# Altium schematic symbol library CPU_STM.SchLib: 336 symbols (part 5 of 6)
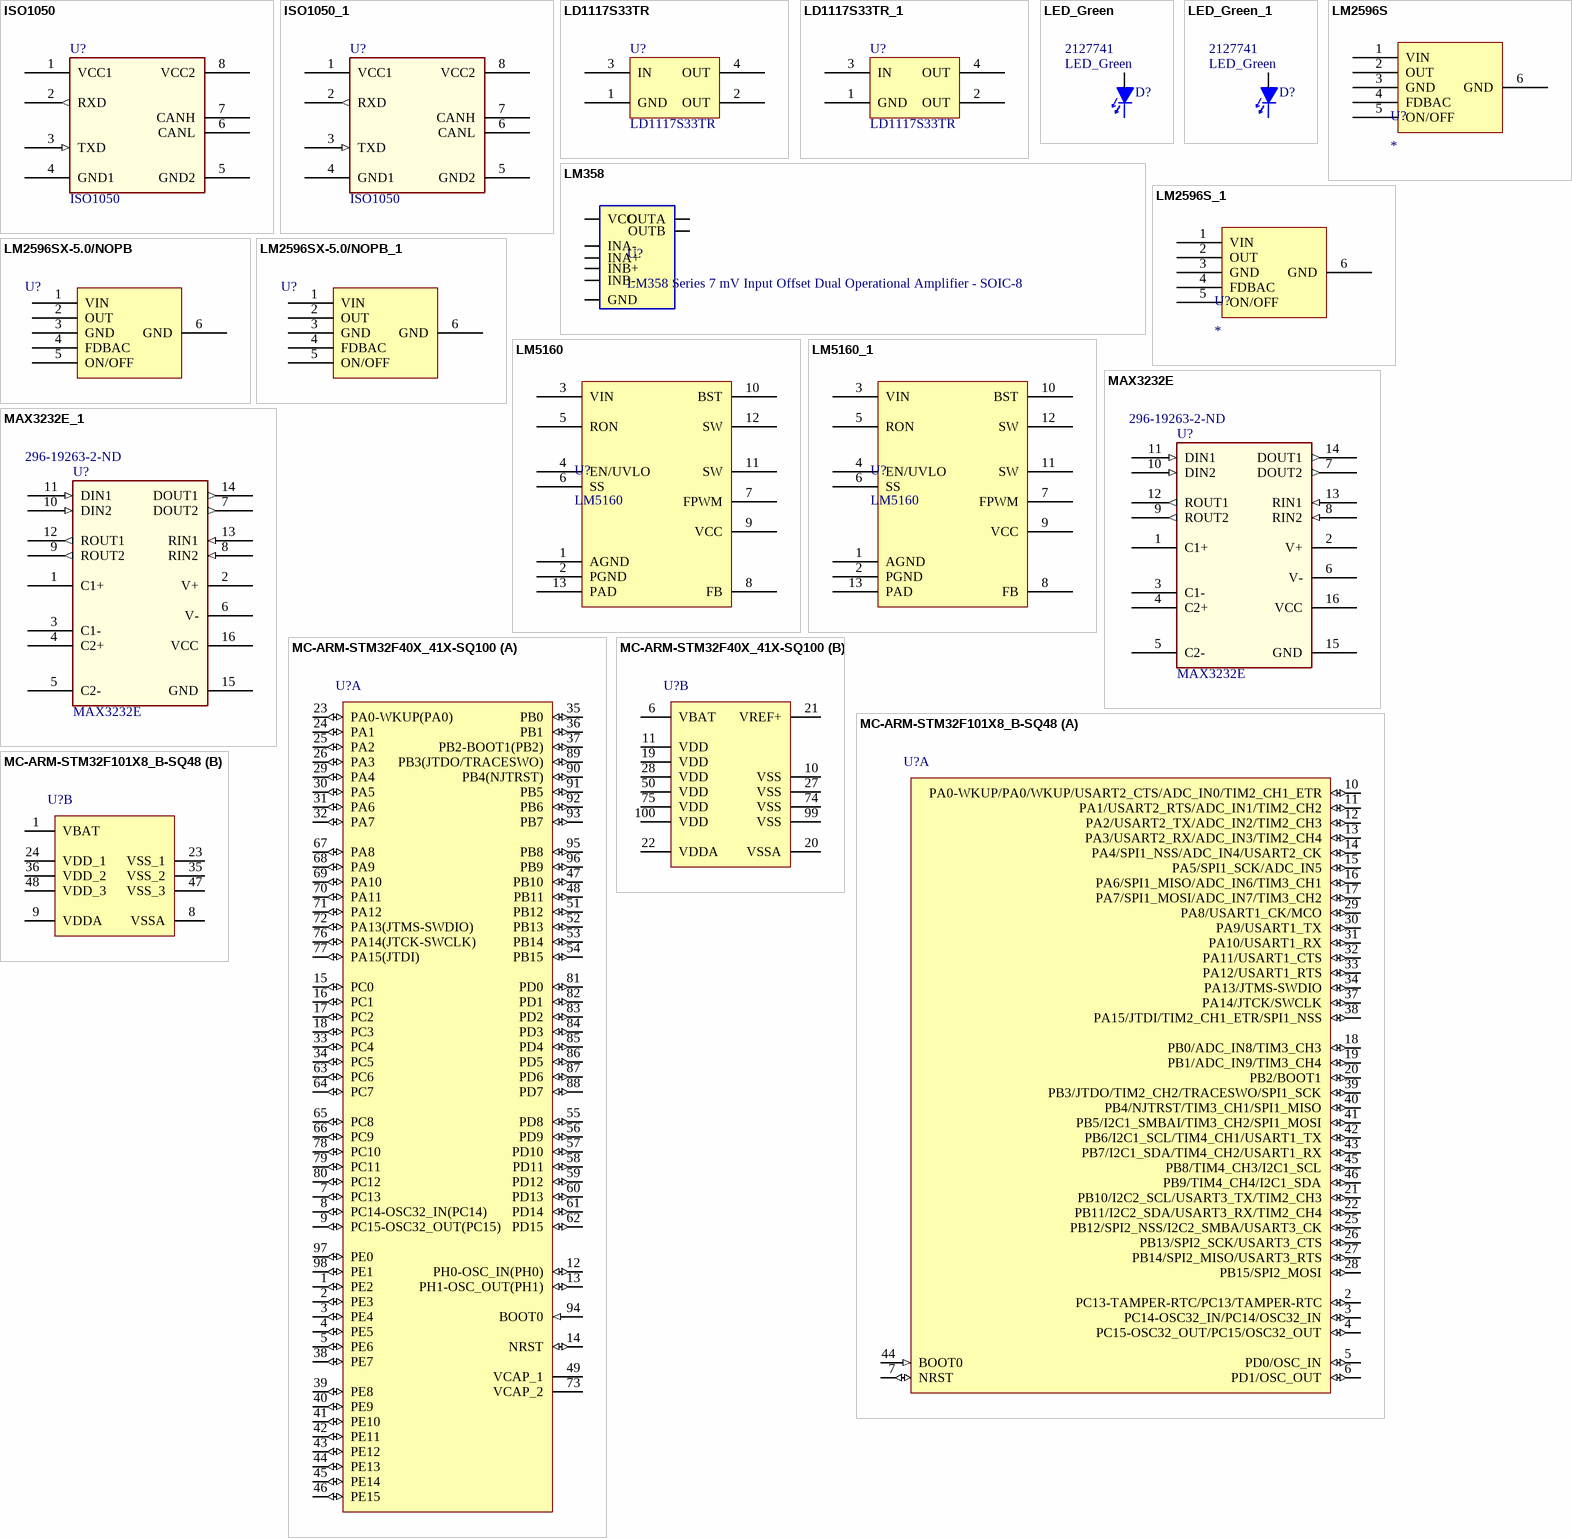
[diagram p23: symbols ISO1050 to MC-ARM-STM32F101X8_B-SQ48]

## LM5160
designator U?
Manufacturer: Texas Instruments; Manufacturer Part Number: LM5160DNTT; Input Voltage: 4.5 V to 65 V; Input Voltage MAX: 65 V; Number of Outputs: 1 Output; Output Current: 1.5 A; Output Voltage: 2 V to 60 V; Supply Current: 2.3 mA; Switching Frequency: 1 MHz; Topology: Buck; Development Kit: LM5160DNTBKEVM, LM5160DNTFBKEVM; Input Voltage MIN: 4.5 V; Product Status: New Product; Supplier 1: Mouser; RoHS: RoHS Compliant; Category: Voltage Regulators - Switching Regulators; Stock 1: 630; Pricing 1: 1=7.74, 10=6.91, 25=6.22, 50=5.94, 100=5.66, 250=5.11, 500=4.59, 750=4.14, 1000=3.45 (AUD); Operating Temperature Range: - 40 C to + 125 C; Package / Case: WSON-12; Packaging: Reel; Series: LM5160; Type: Synchronous Step-Down DC/DC Converter; Width: 4 mm; Brand: Texas Instruments; Mounting Style: SMD/SMT; Shutdown: Shutdown; Maximum Operating Temperature: + 125 C; Minimum Operating Temperature: - 40 C; Supply Voltage - Min: 4.5 V; RoHS - Mouser: Y; Minimum Order Quantity: 1; Reeling: True; ComponentLink1URL: http://www.mouser.com/ds/2/405/snvsa03a-528100.pdf; ComponentLink1Description: http://www.mouser.com/ds/2/405/snvsa03a-528100.pdf; Supplier Part Number 1: 595-LM5160DNTT
footprint WSON (U_48_RSL)
pins: 1 AGND, 2 PGND, 3 VIN, 4 EN/UVLO, 5 RON, 6 SS, 7 FPWM, 8 FB, 9 VCC, 10 BST, 11 SW, 12 SW, 13 PAD

## LM5160_1
designator U?, comment LM5160
Manufacturer: Texas Instruments; Manufacturer Part Number: LM5160DNTT; Input Voltage: 4.5 V to 65 V; Input Voltage MAX: 65 V; Number of Outputs: 1 Output; Output Current: 1.5 A; Output Voltage: 2 V to 60 V; Supply Current: 2.3 mA; Switching Frequency: 1 MHz; Topology: Buck; Development Kit: LM5160DNTBKEVM, LM5160DNTFBKEVM; Input Voltage MIN: 4.5 V; Product Status: New Product; Supplier 1: Mouser; RoHS: RoHS Compliant; Category: Voltage Regulators - Switching Regulators; Stock 1: 630; Pricing 1: 1=7.74, 10=6.91, 25=6.22, 50=5.94, 100=5.66, 250=5.11, 500=4.59, 750=4.14, 1000=3.45 (AUD); Operating Temperature Range: - 40 C to + 125 C; Package / Case: WSON-12; Packaging: Reel; Series: LM5160; Type: Synchronous Step-Down DC/DC Converter; Width: 4 mm; Brand: Texas Instruments; Mounting Style: SMD/SMT; Shutdown: Shutdown; Maximum Operating Temperature: + 125 C; Minimum Operating Temperature: - 40 C; Supply Voltage - Min: 4.5 V; RoHS - Mouser: Y; Minimum Order Quantity: 1; Reeling: True; ComponentLink1URL: http://www.mouser.com/ds/2/405/snvsa03a-528100.pdf; ComponentLink1Description: http://www.mouser.com/ds/2/405/snvsa03a-528100.pdf; Supplier Part Number 1: 595-LM5160DNTT
footprint WSON (U_48_RSL)
pins: 1 AGND, 2 PGND, 3 VIN, 4 EN/UVLO, 5 RON, 6 SS, 7 FPWM, 8 FB, 9 VCC, 10 BST, 11 SW, 12 SW, 13 PAD

## MAX3232E
designator U?  Supplier Part Number 1: 296-19263-2-ND
Dual Channel RS-232 Line Driver/Receiver; TIIntPartnumber: 1A0213; MfrNum: MAX3232ECD; Mfr: TI; Cost10K: 0.81; Cost100: 1.47; Vendor: Digikey; DescriptiveText: Dual Channel RS-232 Line Driver/Receiver; PartName: MAX3232E; Descriptive_Text: Dual Channel RS-232 Line Driver/Receiver; Supplier 1: Digi-Key
footprint TI-DW16_M (SOIC, 16-Leads, Body 10.3x7.5mm, Pitch 1.27mm, IPC Low Density)
pins: 1 C1+, 2 V+, 3 C1-, 4 C2+, 5 C2-, 6 V-, 7 DOUT2 (out), 8 RIN2 (in), 9 ROUT2 (out), 10 DIN2 (in), 11 DIN1 (in), 12 ROUT1 (out), 13 RIN1 (in), 14 DOUT1 (out), 15 GND (power), 16 VCC (power)

## MAX3232E_1
designator U?, comment MAX3232E  Supplier Part Number 1: 296-19263-2-ND
Dual Channel RS-232 Line Driver/Receiver; TIIntPartnumber: 1A0213; MfrNum: MAX3232ECD; Mfr: TI; Cost10K: 0.81; Cost100: 1.47; Vendor: Digikey; DescriptiveText: Dual Channel RS-232 Line Driver/Receiver; PartName: MAX3232E; Descriptive_Text: Dual Channel RS-232 Line Driver/Receiver; Supplier 1: Digi-Key
footprint TI-DW16_M (SOIC, 16-Leads, Body 10.3x7.5mm, Pitch 1.27mm, IPC Low Density)
pins: 1 C1+, 2 V+, 3 C1-, 4 C2+, 5 C2-, 6 V-, 7 DOUT2 (out), 8 RIN2 (in), 9 ROUT2 (out), 10 DIN2 (in), 11 DIN1 (in), 12 ROUT1 (out), 13 RIN1 (in), 14 DOUT1 (out), 15 GND (power), 16 VCC (power)

## MC-ARM-STM32F40X_41X-SQ100
designator U?
footprint STM-LQFP100_L (Thin QFP, 100-Leads, Body 14x14mm, Pitch 0.5mm, IPC High Density)
part A pins: 1 PE2 (io) "PE2/TRACECLK/FSMC_A23/ETH_MII_TXD3/EVENTOUT", 2 PE3 (io) "PE3/TRACED0/FSMC_A19/EVENTOUT", 3 PE4 (io) "PE4/TRACED1/FSMC_A20/DCMI_D4/EVENTOUT", 4 PE5 (io) "PE5/TRACED2/FSMC_A21/TIM9_CH1/DCMI_D6/EVENTOUT", 5 PE6 (io) "PE6/TRACED3/FSMC_A22/TIM9_CH2/DCMI_D7/EVENTOUT", 7 PC13 (io) "PC13/EVENTOUT/RTC_OUT,RTC_TAMP1,RTC_TS", 8 PC14-OSC32_IN(PC14) (io) "PC14-OSC32_IN(PC14)/EVENTOUT/OSC32_IN", 9 PC15-OSC32_OUT(PC15) (io) "PC15-OSC32_OUT(PC15)/EVENTOUT/OSC32_OUT", 12 PH0-OSC_IN(PH0) (io) "PH0-OSC_IN(PH0)/EVENTOUT/OSC_IN", 13 PH1-OSC_OUT(PH1) (io) "PH1-OSC_OUT(PH1)/EVENTOUT/OSC_OUT", 14 NRST (io), 15 PC0 (io) "PC0/OTG_HS_ULPI_STP/EVENTOUT/ADC123_IN10", 16 PC1 (io) "PC1/ETH_MDC/EVENTOUT/ADC123_IN11", 17 PC2 (io) "PC2/SPI2_MISO/OTG_HS_ULPI_DIR/ETH_MII_TXD2/I2S2ext_SD/EVENTOUT/ADC123_IN12", 18 PC3 (io) "PC3/SPI2_MOSI/I2S2_SD/OTG_HS_ULPI_NXT/ETH_MII_TX_CLK/EVENTOUT/ADC123_IN13", 23 PA0-WKUP(PA0) (io) "PA0-WKUP(PA0)/USART2_CTS/UART4_TX/ETH_MII_CRS/TIM2_CH1_ETR/TIM5_CH1/TIM8_ETR/EVENTOUT/ADC123_IN0/WKUP", 24 PA1 (io) "PA1/USART2_RTS/UART4_RX/ETH_RMII_REF_CLK/ETH_MII_RX_CLK/TIM5_CH2/TIM2_CH2/EVENTOUT/ADC123_IN1", 25 PA2 (io) "PA2/USART2_TX/TIM5_CH3/TIM9_CH1/TIM2_CH3/ETH_MDIO/EVENTOUT/ADC123_IN2", 26 PA3 (io) "PA3/USART2_RX/TIM5_CH4/TIM9_CH2/TIM2_CH4/OTG_HS_ULPI_D0/ETH_MII_COL/EVENTOUT/ADC123_IN3", 29 PA4 (io) "PA4/SPI1_NSS/SPI3_NSS/USART2_CK/DCMI_HSYNC/OTG_HS_SOF/I2S3_WS/EVENTOUT/ADC12_IN4/DAC_OUT1", 30 PA5 (io) "PA5/SPI1_SCK/OTG_HS_ULPI_CK/TIM2_CH1_ETR/TIM8_CH1N/EVENTOUT/ADC12_IN5/DAC_OUT2", 31 PA6 (io) "PA6/SPI1_MISO/TIM8_BKIN/TIM13_CH1/DCMI_PIXCLK/TIM3_CH1/TIM1_BKIN/EVENTOUT/ADC12_IN6", 32 PA7 (io) "PA7/SPI1_MOSI/TIM8_CH1N/TIM14_CH1/TIM3_CH2/ETH_MII_RX_DV/TIM1_CH1N/ETH_RMII_CRS_DV/EVENTOUT/ADC12_IN7", 33 PC4 (io) "PC4/ETH_RMII_RX_D0/ETH_MII_RX_D0/EVENTOUT/ADC12_IN14", 34 PC5 (io) "PC5/ETH_RMII_RX_D1/ETH_MII_RX_D1/EVENTOUT/ADC12_IN15", 35 PB0 (io) "PB0/TIM3_CH3/TIM8_CH2N/OTG_HS_ULPI_D1/ETH_MII_RXD2/TIM1_CH2N/EVENTOUT/ADC12_IN8", 36 PB1 (io) "PB1/TIM3_CH4/TIM8_CH3N/OTG_HS_ULPI_D2/ETH_MII_RXD3/TIM1_CH3N/EVENTOUT/ADC12_IN9", 37 PB2-BOOT1(PB2) (io) "PB2-BOOT1(PB2)/EVENTOUT", 38 PE7 (io) "PE7/FSMC_D4/TIM1_ETR/EVENTOUT", 39 PE8 (io) "PE8/FSMC_D5/TIM1_CH1N/EVENTOUT", 40 PE9 (io) "PE9/FSMC_D6/TIM1_CH1/EVENTOUT", 41 PE10 (io) "PE10/FSMC_D7/TIM1_CH2N/EVENTOUT", 42 PE11 (io) "PE11/FSMC_D8/TIM1_CH2/EVENTOUT", 43 PE12 (io) "PE12/FSMC_D9/TIM1_CH3N/EVENTOUT", 44 PE13 (io) "PE13/FSMC_D10/TIM1_CH3/EVENTOUT", 45 PE14 (io) "PE14/FSMC_D11/TIM1_CH4/EVENTOUT", 46 PE15 (io) "PE15/FSMC_D12/TIM1_BKIN/EVENTOUT", 47 PB10 (io) "PB10/SPI2_SCK/I2S2_CK/I2C2_SCL/USART3_TX/OTG_HS_ULPI_D3/ETH_MII_RX_ER/TIM2_CH3/EVENTOUT", 48 PB11 (io) "PB11/I2C2_SDA/USART3_RX/OTG_HS_ULPI_D4/ETH_RMII_TX_EN/ETH_MII_TX_EN/TIM2_CH4/EVENTOUT", 49 VCAP_1 (power), 51 PB12 (io) "PB12/SPI2_NSS/I2S2_WS/I2C2_SMBA/USART3_CK/TIM1_BKIN/CAN2_RX/OTG_HS_ULPI_D5/ETH_RMII_TXD0/ETH_MII_TXD0/OTG_HS_ID/EVENTOUT", 52 PB13 (io) "PB13/SPI2_SCK/I2S2_CK/USART3_CTS/TIM1_CH1N/CAN2_TX/OTG_HS_ULPI_D6/ETH_RMII_TXD1/ETH_MII_TXD1/EVENTOUT/OTG_HS_VBUS", 53 PB14 (io) "PB14/SPI2_MISO/TIM1_CH2N/TIM12_CH1/OTG_HS_DM/USART3_RTS/TIM8_CH2N/I2S2ext_SD/EVENTOUT", 54 PB15 (io) "PB15/SPI2_MOSI/I2S2_SD/TIM1_CH3N/TIM8_CH3N/TIM12_CH2/OTG_HS_DP/EVENTOUT/RTC_REFIN", 55 PD8 (io) "PD8/FSMC_D13/USART3_TX/EVENTOUT", 56 PD9 (io) "PD9/FSMC_D14/USART3_RX/EVENTOUT", 57 PD10 (io) "PD10/FSMC_D15/USART3_CK/EVENTOUT", 58 PD11 (io) "PD11/FSMC_CLE/FSMC_A16/USART3_CTS/EVENTOUT", 59 PD12 (io) "PD12/FSMC_ALE/FSMC_A17/TIM4_CH1/USART3_RTS/EVENTOUT", 60 PD13 (io) "PD13/FSMC_A18/TIM4_CH2/EVENTOUT", 61 PD14 (io) "PD14/FSMC_D0/TIM4_CH3/EVENTOUT", 62 PD15 (io) "PD15/FSMC_D1/TIM4_CH4/EVENTOUT", 63 PC6 (io) "PC6/I2S2_MCK/TIM8_CH1/SDIO_D6/USART6_TX/DCMI_D0/TIM3_CH1/EVENTOUT", 64 PC7 (io) "PC7/I2S3_MCK/TIM8_CH2/SDIO_D7/USART6_RX/DCMI_D1/TIM3_CH2/EVENTOUT", 65 PC8 (io) "PC8/TIM8_CH3/SDIO_D0/TIM3_CH3/USART6_CK/DCMI_D2/EVENTOUT", 66 PC9 (io) "PC9/I2S_CKIN/MCO2/TIM8_CH4/SDIO_D1/I2C3_SDA/DCMI_D3/TIM3_CH4/EVENTOUT", 67 PA8 (io) "PA8/MCO1/USART1_CK/TIM1_CH1/I2C3_SCL/OTG_FS_SOF/EVENTOUT", 68 PA9 (io) "PA9/USART1_TX/TIM1_CH2/I2C3_SMBA/DCMI_D0/EVENTOUT/OTG_FS_VBUS", 69 PA10 (io) "PA10/USART1_RX/TIM1_CH3/OTG_FS_ID/DCMI_D1/EVENTOUT", 70 PA11 (io) "PA11/USART1_CTS/CAN1_RX/TIM1_CH4/OTG_FS_DM/EVENTOUT", 71 PA12 (io) "PA12/USART1_RTS/CAN1_TX/TIM1_ETR/OTG_FS_DP/EVENTOUT", 72 PA13(JTMS-SWDIO) (io) "PA13(JTMS-SWDIO)/JTMS-SWDIO/EVENTOUT", 73 VCAP_2 (power), 76 PA14(JTCK-SWCLK) (io) "PA14(JTCK-SWCLK)/JTCK-SWCLK/EVENTOUT", 77 PA15(JTDI) (io) "PA15(JTDI)/JTDI/SPI3_NSS/I2S3_WS/TIM2_CH1_ETR/SPI1_NSS/EVENTOUT", 78 PC10 (io) "PC10/SPI3_SCK/I2S3_CK/UART4_TX/SDIO_D2/DCMI_D8/USART3_TX/EVENTOUT", 79 PC11 (io) "PC11/UART4_RX/SPI3_MISO/SDIO_D3/DCMI_D4/USART3_RX/I2S3ext_SD/EVENTOUT", 80 PC12 (io) "PC12/UART5_TX/SDIO_CK/DCMI_D9/SPI3_MOSI/I2S3_SD/USART3_CK/EVENTOUT", 81 PD0 (io) "PD0/FSMC_D2/CAN1_RX/EVENTOUT", 82 PD1 (io) "PD1/FSMC_D3/CAN1_TX/EVENTOUT", 83 PD2 (io) "PD2/TIM3_ETR/UART5_RX/SDIO_CMD/DCMI_D11/EVENTOUT", 84 PD3 (io) "PD3/FSMC_CLK/USART2_CTS/EVENTOUT", 85 PD4 (io) "PD4/FSMC_NOE/USART2_RTS/EVENTOUT", 86 PD5 (io) "PD5/FSMC_NWE/USART2_TX/EVENTOUT", 87 PD6 (io) "PD6/FSMC_NWAIT/USART2_RX/EVENTOUT", 88 PD7 (io) "PD7/USART2_CK/FSMC_NE1/FSMC_NCE2/EVENTOUT", 89 PB3(JTDO/TRACESWO) (io) "PB3(JTDO/TRACESWO)/JTDO/TRACESWO/SPI3_SCK/I2S3_CK/TIM2_CH2/SPI1_SCK/EVENTOUT", 90 PB4(NJTRST) (io) "PB4(NJTRST)/NJTRST/SPI3_MISO/TIM3_CH1/SPI1_MISO/I2S3ext_SD/EVENTOUT", 91 PB5 (io) "PB5/I2C1_SMBA/CAN2_RX/OTG_HS_ULPI_D7/ETH_PPS_OUT/TIM3_CH2/SPI1_MOSI/SPI3_MOSI/DCMI_D10/I2S3_SD/EVENTOUT", 92 PB6 (io) "PB6/I2C1_SCL/TIM4_CH1/CAN2_TX/DCMI_D5/USART1_TX/EVENTOUT", 93 PB7 (io) "PB7/I2C1_SDA/FSMC_NL/DCMI_VSYNC/USART1_RX/TIM4_CH2/EVENTOUT", 94 BOOT0 (in) "BOOT0/VPP", 95 PB8 (io) "PB8/TIM4_CH3/SDIO_D4/TIM10_CH1/DCMI_D6/ETH_MII_TXD3/I2C1_SCL/CAN1_RX/EVENTOUT", 96 PB9 (io) "PB9/SPI2_NSS/I2S2_WS/TIM4_CH4/TIM11_CH1/SDIO_D5/DCMI_D7/I2C1_SDA/CAN1_TX/EVENTOUT", 97 PE0 (io) "PE0/TIM4_ETR/FSMC_NBL0/DCMI_D2/EVENTOUT", 98 PE1 (io) "PE1/FSMC_NBL1/DCMI_D3/EVENTOUT"
part B pins: 6 VBAT (power), 10 VSS (power), 11 VDD (power), 19 VDD (power), 20 VSSA (power), 21 VREF+ (power), 22 VDDA (power), 27 VSS (power), 28 VDD (power), 50 VDD (power), 74 VSS (power), 75 VDD (power), 99 VSS (power), 100 VDD (power)

## MC-ARM-STM32F101X8_B-SQ48
designator U?
Manufacturer: STMicroelectronics; Manufacturer Part Number: STM32F101C8T6TR; Program Memory Type: Flash; A/D Bit Size: 12 bit; A/D Channels Available: 10; Data RAM Size: 10 kB; Data RAM Type: SRAM; Interface Type: I2C, SPI, USART; Number of I/Os: 37 I/O; Program Memory Size: 64 kB; Core: ARM Cortex M3; Data Bus Width: 32 bit; Maximum Clock Frequency: 36 MHz; Number of Timers: 3 Timer; Operating Supply Voltage: 2 V to 3.6 V; Processor Series: ARM Cortex-M; Supplier 1: Mouser; RoHS: RoHS Compliant; Category: ARM Microcontrollers - MCU; Stock 1: 0; Pricing 1: 1795=2.43, 2400=2.35, 4800=2.30 (USD); Length: 7 mm; Package/Case: LQFP-48; Packaging: Reel; Series: STM32F1; Brand: STMicroelectronics; Mounting Style: SMD/SMT; Maximum Operating Temperature: + 85 C; Minimum Operating Temperature: - 40 C; Product Category: ARM Based Microcontrollers; Standard Pack Qty: 2400; Tradename: STM32; RoHS - Mouser: Y; Minimum Order Quantity: 1795; Reeling: True; ComponentLink1URL: http://www.mouser.com/ds/2/389/CD00161561-490263.pdf; ComponentLink1Description: http://www.mouser.com/ds/2/389/CD00161561-490263.pdf; Supplier Part Number 1: 511-STM32F101C8T6TR
footprint STM-LQFP48_M (QFP, 48-Leads, Body 7x7mm, Pitch 0.5mm, IPC Low Density)
part A pins: 2 PC13-TAMPER-RTC/PC13/TAMPER-RTC (io), 3 PC14-OSC32_IN/PC14/OSC32_IN (io), 4 PC15-OSC32_OUT/PC15/OSC32_OUT (io), 5 PD0/OSC_IN (io), 6 PD1/OSC_OUT (io), 7 NRST (io), 10 PA0-WKUP/PA0/WKUP/USART2_CTS/ADC_IN0/TIM2_CH1_ETR (io), 11 PA1/USART2_RTS/ADC_IN1/TIM2_CH2 (io), 12 PA2/USART2_TX/ADC_IN2/TIM2_CH3 (io), 13 PA3/USART2_RX/ADC_IN3/TIM2_CH4 (io), 14 PA4/SPI1_NSS/ADC_IN4/USART2_CK (io), 15 PA5/SPI1_SCK/ADC_IN5 (io), 16 PA6/SPI1_MISO/ADC_IN6/TIM3_CH1 (io), 17 PA7/SPI1_MOSI/ADC_IN7/TIM3_CH2 (io), 18 PB0/ADC_IN8/TIM3_CH3 (io), 19 PB1/ADC_IN9/TIM3_CH4 (io), 20 PB2/BOOT1 (io), 21 PB10/I2C2_SCL/USART3_TX/TIM2_CH3 (io), 22 PB11/I2C2_SDA/USART3_RX/TIM2_CH4 (io), 25 PB12/SPI2_NSS/I2C2_SMBA/USART3_CK (io), 26 PB13/SPI2_SCK/USART3_CTS (io), 27 PB14/SPI2_MISO/USART3_RTS (io), 28 PB15/SPI2_MOSI (io), 29 PA8/USART1_CK/MCO (io), 30 PA9/USART1_TX (io), 31 PA10/USART1_RX (io), 32 PA11/USART1_CTS (io), 33 PA12/USART1_RTS (io), 34 PA13/JTMS-SWDIO (io), 37 PA14/JTCK/SWCLK (io), 38 PA15/JTDI/TIM2_CH1_ETR/SPI1_NSS (io), 39 PB3/JTDO/TIM2_CH2/TRACESWO/SPI1_SCK (io), 40 PB4/NJTRST/TIM3_CH1/SPI1_MISO (io), 41 PB5/I2C1_SMBAI/TIM3_CH2/SPI1_MOSI (io), 42 PB6/I2C1_SCL/TIM4_CH1/USART1_TX (io), 43 PB7/I2C1_SDA/TIM4_CH2/USART1_RX (io), 44 BOOT0 (in), 45 PB8/TIM4_CH3/I2C1_SCL (io), 46 PB9/TIM4_CH4/I2C1_SDA (io)
part B pins: 1 VBAT (power), 8 VSSA (power), 9 VDDA (power), 23 VSS_1 (power), 24 VDD_1 (power), 35 VSS_2 (power), 36 VDD_2 (power), 47 VSS_3 (power), 48 VDD_3 (power)

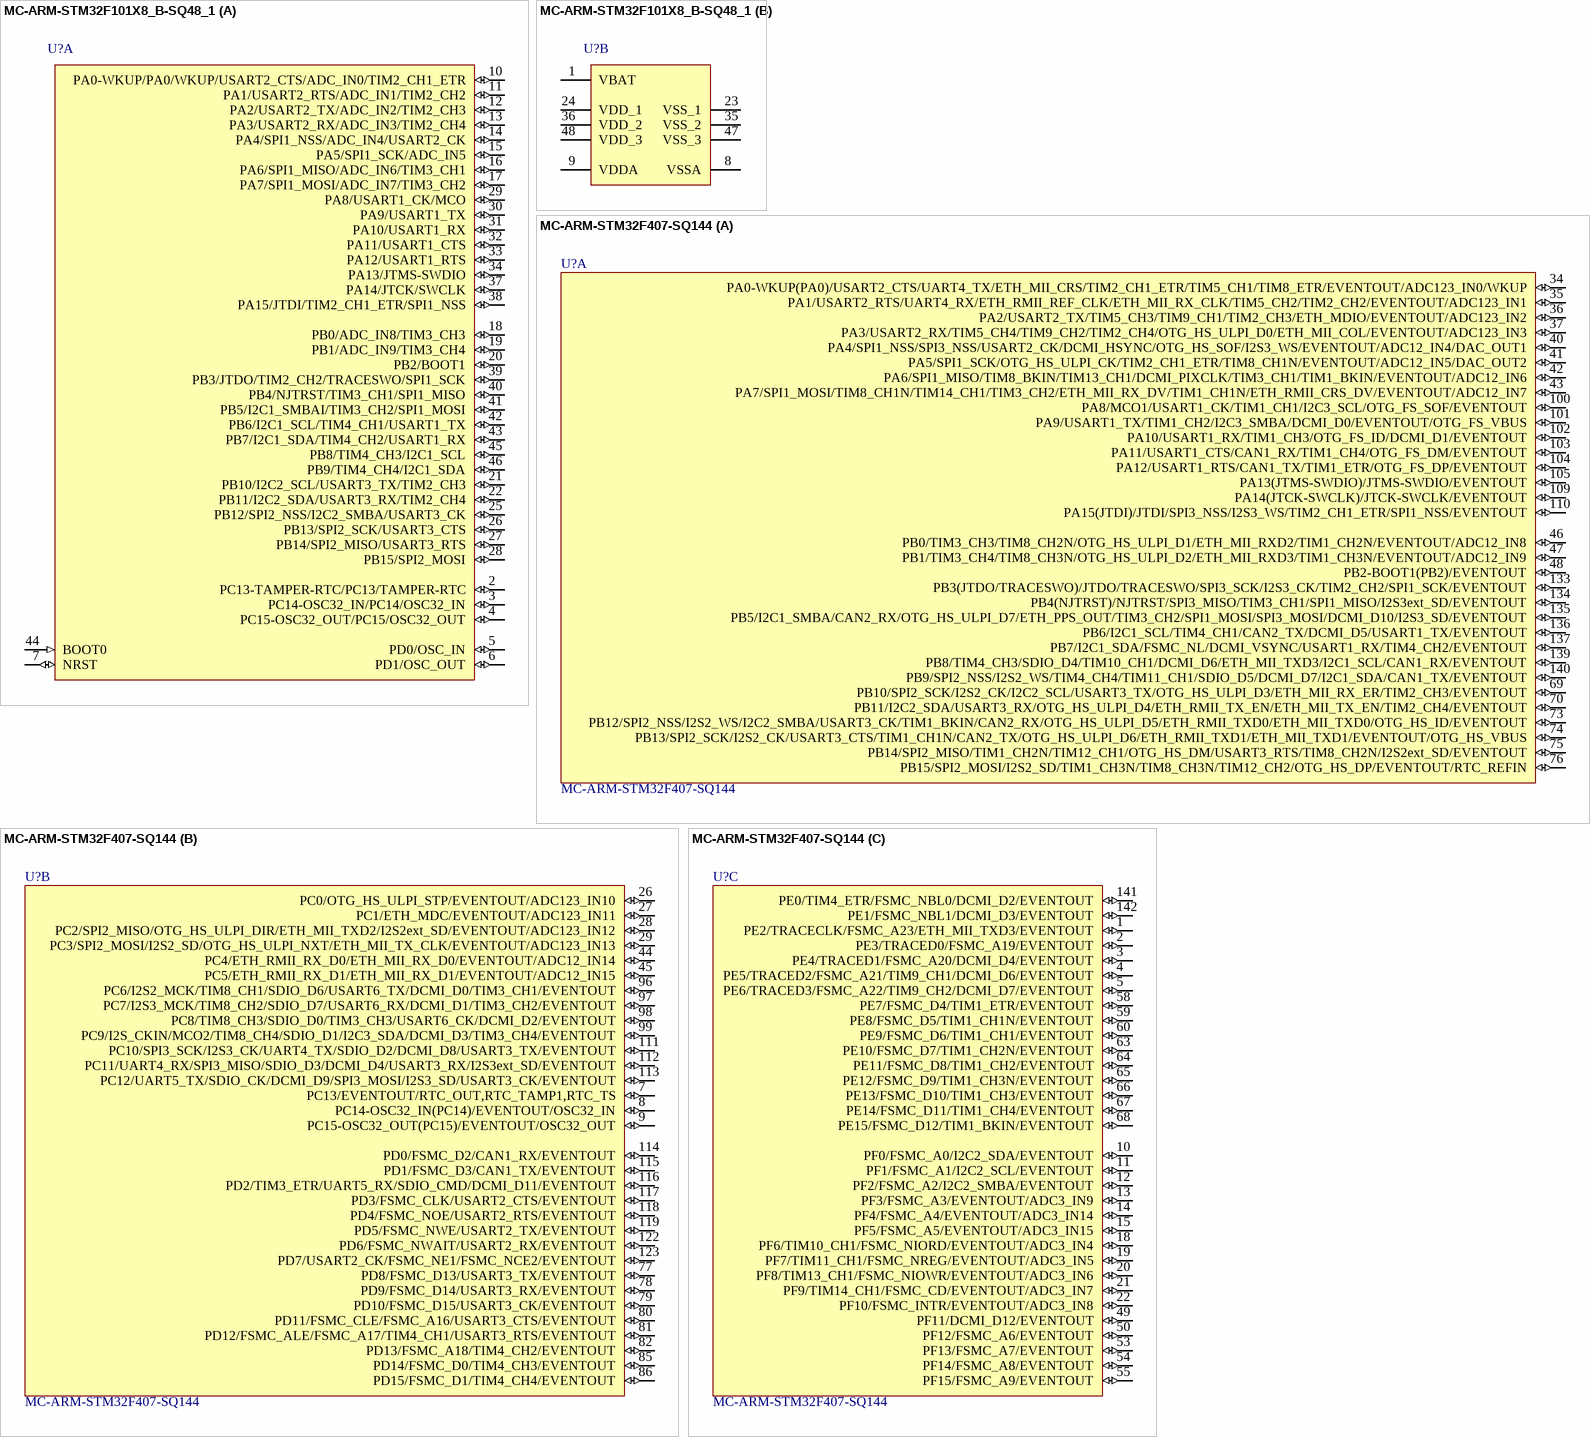
[diagram p13: symbols MC-ARM-STM32F101X8_B-SQ48_1 to MC-ARM-STM32F407-SQ144]

## MC-ARM-STM32F101X8_B-SQ48_1
designator U?
Manufacturer: STMicroelectronics; Manufacturer Part Number: STM32F101C8T6TR; Program Memory Type: Flash; A/D Bit Size: 12 bit; A/D Channels Available: 10; Data RAM Size: 10 kB; Data RAM Type: SRAM; Interface Type: I2C, SPI, USART; Number of I/Os: 37 I/O; Program Memory Size: 64 kB; Core: ARM Cortex M3; Data Bus Width: 32 bit; Maximum Clock Frequency: 36 MHz; Number of Timers: 3 Timer; Operating Supply Voltage: 2 V to 3.6 V; Processor Series: ARM Cortex-M; Supplier 1: Mouser; RoHS: RoHS Compliant; Category: ARM Microcontrollers - MCU; Stock 1: 0; Pricing 1: 1795=2.43, 2400=2.35, 4800=2.30 (USD); Length: 7 mm; Package/Case: LQFP-48; Packaging: Reel; Series: STM32F1; Brand: STMicroelectronics; Mounting Style: SMD/SMT; Maximum Operating Temperature: + 85 C; Minimum Operating Temperature: - 40 C; Product Category: ARM Based Microcontrollers; Standard Pack Qty: 2400; Tradename: STM32; RoHS - Mouser: Y; Minimum Order Quantity: 1795; Reeling: True; ComponentLink1URL: http://www.mouser.com/ds/2/389/CD00161561-490263.pdf; ComponentLink1Description: http://www.mouser.com/ds/2/389/CD00161561-490263.pdf; Supplier Part Number 1: 511-STM32F101C8T6TR
footprint STM-LQFP48_M (QFP, 48-Leads, Body 7x7mm, Pitch 0.5mm, IPC Low Density)
part A pins: 2 PC13-TAMPER-RTC/PC13/TAMPER-RTC (io), 3 PC14-OSC32_IN/PC14/OSC32_IN (io), 4 PC15-OSC32_OUT/PC15/OSC32_OUT (io), 5 PD0/OSC_IN (io), 6 PD1/OSC_OUT (io), 7 NRST (io), 10 PA0-WKUP/PA0/WKUP/USART2_CTS/ADC_IN0/TIM2_CH1_ETR (io), 11 PA1/USART2_RTS/ADC_IN1/TIM2_CH2 (io), 12 PA2/USART2_TX/ADC_IN2/TIM2_CH3 (io), 13 PA3/USART2_RX/ADC_IN3/TIM2_CH4 (io), 14 PA4/SPI1_NSS/ADC_IN4/USART2_CK (io), 15 PA5/SPI1_SCK/ADC_IN5 (io), 16 PA6/SPI1_MISO/ADC_IN6/TIM3_CH1 (io), 17 PA7/SPI1_MOSI/ADC_IN7/TIM3_CH2 (io), 18 PB0/ADC_IN8/TIM3_CH3 (io), 19 PB1/ADC_IN9/TIM3_CH4 (io), 20 PB2/BOOT1 (io), 21 PB10/I2C2_SCL/USART3_TX/TIM2_CH3 (io), 22 PB11/I2C2_SDA/USART3_RX/TIM2_CH4 (io), 25 PB12/SPI2_NSS/I2C2_SMBA/USART3_CK (io), 26 PB13/SPI2_SCK/USART3_CTS (io), 27 PB14/SPI2_MISO/USART3_RTS (io), 28 PB15/SPI2_MOSI (io), 29 PA8/USART1_CK/MCO (io), 30 PA9/USART1_TX (io), 31 PA10/USART1_RX (io), 32 PA11/USART1_CTS (io), 33 PA12/USART1_RTS (io), 34 PA13/JTMS-SWDIO (io), 37 PA14/JTCK/SWCLK (io), 38 PA15/JTDI/TIM2_CH1_ETR/SPI1_NSS (io), 39 PB3/JTDO/TIM2_CH2/TRACESWO/SPI1_SCK (io), 40 PB4/NJTRST/TIM3_CH1/SPI1_MISO (io), 41 PB5/I2C1_SMBAI/TIM3_CH2/SPI1_MOSI (io), 42 PB6/I2C1_SCL/TIM4_CH1/USART1_TX (io), 43 PB7/I2C1_SDA/TIM4_CH2/USART1_RX (io), 44 BOOT0 (in), 45 PB8/TIM4_CH3/I2C1_SCL (io), 46 PB9/TIM4_CH4/I2C1_SDA (io)
part B pins: 1 VBAT (power), 8 VSSA (power), 9 VDDA (power), 23 VSS_1 (power), 24 VDD_1 (power), 35 VSS_2 (power), 36 VDD_2 (power), 47 VSS_3 (power), 48 VDD_3 (power)

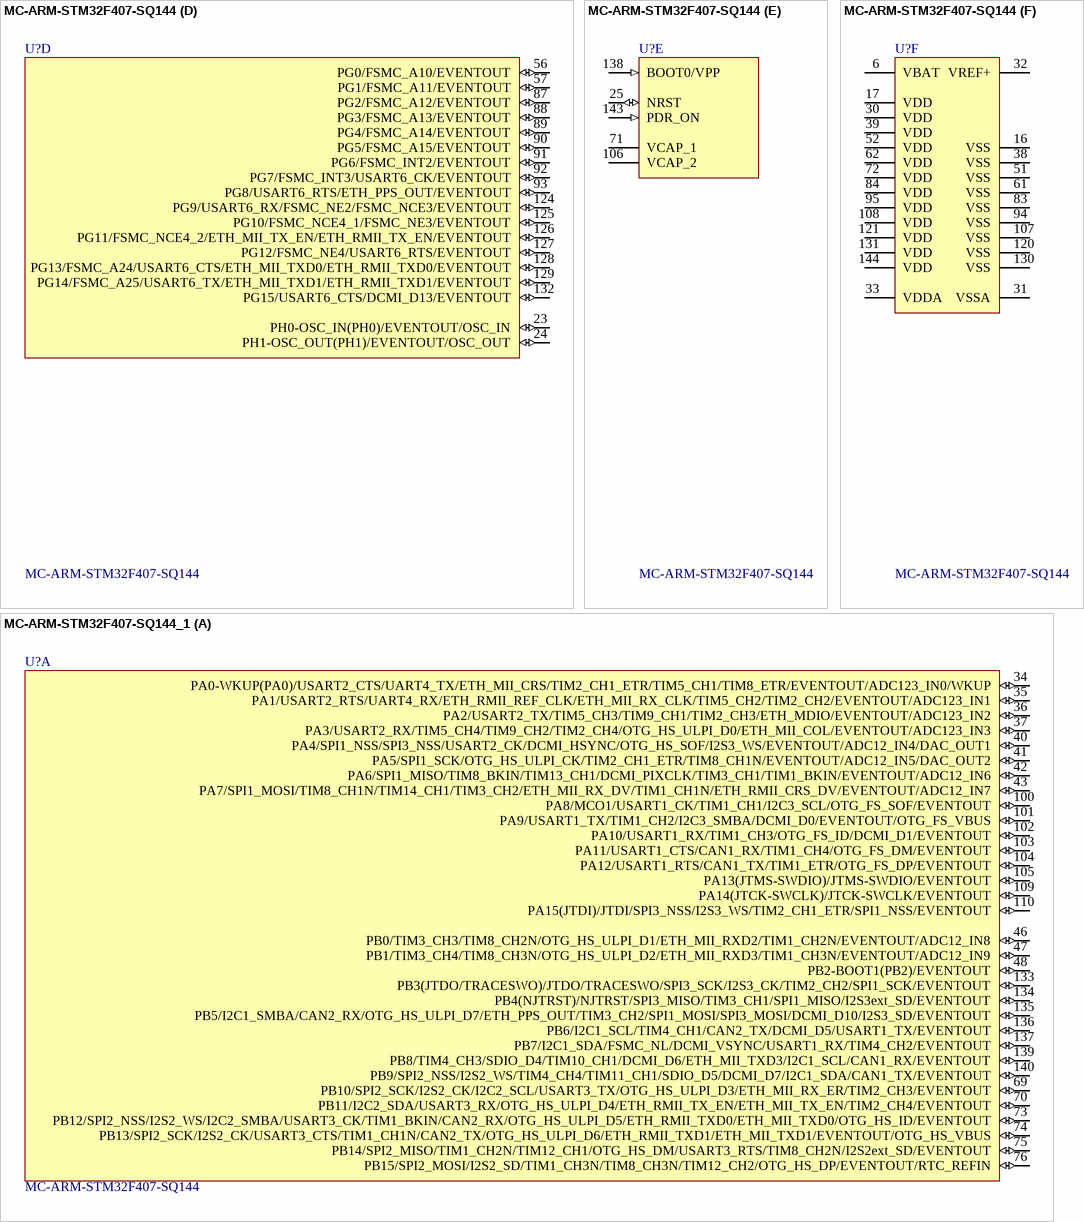
[diagram p14: symbols MC-ARM-STM32F407-SQ144 to MC-ARM-STM32F407-SQ144_1]

## MC-ARM-STM32F407-SQ144
designator U?
Supplier 1: Digi-Key; Supplier Part Number 1: 497-11766-ND
footprint STM-LQFP144_L
part A pins: 34 PA0-WKUP(PA0)/USART2_CTS/UART4_TX/ETH_MII_CRS/TIM2_CH1_ETR/TIM5_CH1/TIM8_ETR/EVENTOUT/ADC123_IN0/WKUP (io), 35 PA1/USART2_RTS/UART4_RX/ETH_RMII_REF_CLK/ETH_MII_RX_CLK/TIM5_CH2/TIM2_CH2/EVENTOUT/ADC123_IN1 (io), 36 PA2/USART2_TX/TIM5_CH3/TIM9_CH1/TIM2_CH3/ETH_MDIO/EVENTOUT/ADC123_IN2 (io), 37 PA3/USART2_RX/TIM5_CH4/TIM9_CH2/TIM2_CH4/OTG_HS_ULPI_D0/ETH_MII_COL/EVENTOUT/ADC123_IN3 (io), 40 PA4/SPI1_NSS/SPI3_NSS/USART2_CK/DCMI_HSYNC/OTG_HS_SOF/I2S3_WS/EVENTOUT/ADC12_IN4/DAC_OUT1 (io), 41 PA5/SPI1_SCK/OTG_HS_ULPI_CK/TIM2_CH1_ETR/TIM8_CH1N/EVENTOUT/ADC12_IN5/DAC_OUT2 (io), 42 PA6/SPI1_MISO/TIM8_BKIN/TIM13_CH1/DCMI_PIXCLK/TIM3_CH1/TIM1_BKIN/EVENTOUT/ADC12_IN6 (io), 43 PA7/SPI1_MOSI/TIM8_CH1N/TIM14_CH1/TIM3_CH2/ETH_MII_RX_DV/TIM1_CH1N/ETH_RMII_CRS_DV/EVENTOUT/ADC12_IN7 (io), 46 PB0/TIM3_CH3/TIM8_CH2N/OTG_HS_ULPI_D1/ETH_MII_RXD2/TIM1_CH2N/EVENTOUT/ADC12_IN8 (io), 47 PB1/TIM3_CH4/TIM8_CH3N/OTG_HS_ULPI_D2/ETH_MII_RXD3/TIM1_CH3N/EVENTOUT/ADC12_IN9 (io), 48 PB2-BOOT1(PB2)/EVENTOUT (io), 69 PB10/SPI2_SCK/I2S2_CK/I2C2_SCL/USART3_TX/OTG_HS_ULPI_D3/ETH_MII_RX_ER/TIM2_CH3/EVENTOUT (io), 70 PB11/I2C2_SDA/USART3_RX/OTG_HS_ULPI_D4/ETH_RMII_TX_EN/ETH_MII_TX_EN/TIM2_CH4/EVENTOUT (io), 73 PB12/SPI2_NSS/I2S2_WS/I2C2_SMBA/USART3_CK/TIM1_BKIN/CAN2_RX/OTG_HS_ULPI_D5/ETH_RMII_TXD0/ETH_MII_TXD0/OTG_HS_ID/EVENTOUT (io), 74 PB13/SPI2_SCK/I2S2_CK/USART3_CTS/TIM1_CH1N/CAN2_TX/OTG_HS_ULPI_D6/ETH_RMII_TXD1/ETH_MII_TXD1/EVENTOUT/OTG_HS_VBUS (io), 75 PB14/SPI2_MISO/TIM1_CH2N/TIM12_CH1/OTG_HS_DM/USART3_RTS/TIM8_CH2N/I2S2ext_SD/EVENTOUT (io), 76 PB15/SPI2_MOSI/I2S2_SD/TIM1_CH3N/TIM8_CH3N/TIM12_CH2/OTG_HS_DP/EVENTOUT/RTC_REFIN (io), 100 PA8/MCO1/USART1_CK/TIM1_CH1/I2C3_SCL/OTG_FS_SOF/EVENTOUT (io), 101 PA9/USART1_TX/TIM1_CH2/I2C3_SMBA/DCMI_D0/EVENTOUT/OTG_FS_VBUS (io), 102 PA10/USART1_RX/TIM1_CH3/OTG_FS_ID/DCMI_D1/EVENTOUT (io), 103 PA11/USART1_CTS/CAN1_RX/TIM1_CH4/OTG_FS_DM/EVENTOUT (io), 104 PA12/USART1_RTS/CAN1_TX/TIM1_ETR/OTG_FS_DP/EVENTOUT (io), 105 PA13(JTMS-SWDIO)/JTMS-SWDIO/EVENTOUT (io), 109 PA14(JTCK-SWCLK)/JTCK-SWCLK/EVENTOUT (io), 110 PA15(JTDI)/JTDI/SPI3_NSS/I2S3_WS/TIM2_CH1_ETR/SPI1_NSS/EVENTOUT (io), 133 PB3(JTDO/TRACESWO)/JTDO/TRACESWO/SPI3_SCK/I2S3_CK/TIM2_CH2/SPI1_SCK/EVENTOUT (io), 134 PB4(NJTRST)/NJTRST/SPI3_MISO/TIM3_CH1/SPI1_MISO/I2S3ext_SD/EVENTOUT (io), 135 PB5/I2C1_SMBA/CAN2_RX/OTG_HS_ULPI_D7/ETH_PPS_OUT/TIM3_CH2/SPI1_MOSI/SPI3_MOSI/DCMI_D10/I2S3_SD/EVENTOUT (io), 136 PB6/I2C1_SCL/TIM4_CH1/CAN2_TX/DCMI_D5/USART1_TX/EVENTOUT (io), 137 PB7/I2C1_SDA/FSMC_NL/DCMI_VSYNC/USART1_RX/TIM4_CH2/EVENTOUT (io), 139 PB8/TIM4_CH3/SDIO_D4/TIM10_CH1/DCMI_D6/ETH_MII_TXD3/I2C1_SCL/CAN1_RX/EVENTOUT (io), 140 PB9/SPI2_NSS/I2S2_WS/TIM4_CH4/TIM11_CH1/SDIO_D5/DCMI_D7/I2C1_SDA/CAN1_TX/EVENTOUT (io)
part B pins: 7 PC13/EVENTOUT/RTC_OUT,RTC_TAMP1,RTC_TS (io), 8 PC14-OSC32_IN(PC14)/EVENTOUT/OSC32_IN (io), 9 PC15-OSC32_OUT(PC15)/EVENTOUT/OSC32_OUT (io), 26 PC0/OTG_HS_ULPI_STP/EVENTOUT/ADC123_IN10 (io), 27 PC1/ETH_MDC/EVENTOUT/ADC123_IN11 (io), 28 PC2/SPI2_MISO/OTG_HS_ULPI_DIR/ETH_MII_TXD2/I2S2ext_SD/EVENTOUT/ADC123_IN12 (io), 29 PC3/SPI2_MOSI/I2S2_SD/OTG_HS_ULPI_NXT/ETH_MII_TX_CLK/EVENTOUT/ADC123_IN13 (io), 44 PC4/ETH_RMII_RX_D0/ETH_MII_RX_D0/EVENTOUT/ADC12_IN14 (io), 45 PC5/ETH_RMII_RX_D1/ETH_MII_RX_D1/EVENTOUT/ADC12_IN15 (io), 77 PD8/FSMC_D13/USART3_TX/EVENTOUT (io), 78 PD9/FSMC_D14/USART3_RX/EVENTOUT (io), 79 PD10/FSMC_D15/USART3_CK/EVENTOUT (io), 80 PD11/FSMC_CLE/FSMC_A16/USART3_CTS/EVENTOUT (io), 81 PD12/FSMC_ALE/FSMC_A17/TIM4_CH1/USART3_RTS/EVENTOUT (io), 82 PD13/FSMC_A18/TIM4_CH2/EVENTOUT (io), 85 PD14/FSMC_D0/TIM4_CH3/EVENTOUT (io), 86 PD15/FSMC_D1/TIM4_CH4/EVENTOUT (io), 96 PC6/I2S2_MCK/TIM8_CH1/SDIO_D6/USART6_TX/DCMI_D0/TIM3_CH1/EVENTOUT (io), 97 PC7/I2S3_MCK/TIM8_CH2/SDIO_D7/USART6_RX/DCMI_D1/TIM3_CH2/EVENTOUT (io), 98 PC8/TIM8_CH3/SDIO_D0/TIM3_CH3/USART6_CK/DCMI_D2/EVENTOUT (io), 99 PC9/I2S_CKIN/MCO2/TIM8_CH4/SDIO_D1/I2C3_SDA/DCMI_D3/TIM3_CH4/EVENTOUT (io), 111 PC10/SPI3_SCK/I2S3_CK/UART4_TX/SDIO_D2/DCMI_D8/USART3_TX/EVENTOUT (io), 112 PC11/UART4_RX/SPI3_MISO/SDIO_D3/DCMI_D4/USART3_RX/I2S3ext_SD/EVENTOUT (io), 113 PC12/UART5_TX/SDIO_CK/DCMI_D9/SPI3_MOSI/I2S3_SD/USART3_CK/EVENTOUT (io), 114 PD0/FSMC_D2/CAN1_RX/EVENTOUT (io), 115 PD1/FSMC_D3/CAN1_TX/EVENTOUT (io), 116 PD2/TIM3_ETR/UART5_RX/SDIO_CMD/DCMI_D11/EVENTOUT (io), 117 PD3/FSMC_CLK/USART2_CTS/EVENTOUT (io), 118 PD4/FSMC_NOE/USART2_RTS/EVENTOUT (io), 119 PD5/FSMC_NWE/USART2_TX/EVENTOUT (io), 122 PD6/FSMC_NWAIT/USART2_RX/EVENTOUT (io), 123 PD7/USART2_CK/FSMC_NE1/FSMC_NCE2/EVENTOUT (io)
part C pins: 1 PE2/TRACECLK/FSMC_A23/ETH_MII_TXD3/EVENTOUT (io), 2 PE3/TRACED0/FSMC_A19/EVENTOUT (io), 3 PE4/TRACED1/FSMC_A20/DCMI_D4/EVENTOUT (io), 4 PE5/TRACED2/FSMC_A21/TIM9_CH1/DCMI_D6/EVENTOUT (io), 5 PE6/TRACED3/FSMC_A22/TIM9_CH2/DCMI_D7/EVENTOUT (io), 10 PF0/FSMC_A0/I2C2_SDA/EVENTOUT (io), 11 PF1/FSMC_A1/I2C2_SCL/EVENTOUT (io), 12 PF2/FSMC_A2/I2C2_SMBA/EVENTOUT (io), 13 PF3/FSMC_A3/EVENTOUT/ADC3_IN9 (io), 14 PF4/FSMC_A4/EVENTOUT/ADC3_IN14 (io), 15 PF5/FSMC_A5/EVENTOUT/ADC3_IN15 (io), 18 PF6/TIM10_CH1/FSMC_NIORD/EVENTOUT/ADC3_IN4 (io), 19 PF7/TIM11_CH1/FSMC_NREG/EVENTOUT/ADC3_IN5 (io), 20 PF8/TIM13_CH1/FSMC_NIOWR/EVENTOUT/ADC3_IN6 (io), 21 PF9/TIM14_CH1/FSMC_CD/EVENTOUT/ADC3_IN7 (io), 22 PF10/FSMC_INTR/EVENTOUT/ADC3_IN8 (io), 49 PF11/DCMI_D12/EVENTOUT (io), 50 PF12/FSMC_A6/EVENTOUT (io), 53 PF13/FSMC_A7/EVENTOUT (io), 54 PF14/FSMC_A8/EVENTOUT (io), 55 PF15/FSMC_A9/EVENTOUT (io), 58 PE7/FSMC_D4/TIM1_ETR/EVENTOUT (io), 59 PE8/FSMC_D5/TIM1_CH1N/EVENTOUT (io), 60 PE9/FSMC_D6/TIM1_CH1/EVENTOUT (io), 63 PE10/FSMC_D7/TIM1_CH2N/EVENTOUT (io), 64 PE11/FSMC_D8/TIM1_CH2/EVENTOUT (io), 65 PE12/FSMC_D9/TIM1_CH3N/EVENTOUT (io), 66 PE13/FSMC_D10/TIM1_CH3/EVENTOUT (io), 67 PE14/FSMC_D11/TIM1_CH4/EVENTOUT (io), 68 PE15/FSMC_D12/TIM1_BKIN/EVENTOUT (io), 141 PE0/TIM4_ETR/FSMC_NBL0/DCMI_D2/EVENTOUT (io), 142 PE1/FSMC_NBL1/DCMI_D3/EVENTOUT (io)
part D pins: 23 PH0-OSC_IN(PH0)/EVENTOUT/OSC_IN (io), 24 PH1-OSC_OUT(PH1)/EVENTOUT/OSC_OUT (io), 56 PG0/FSMC_A10/EVENTOUT (io), 57 PG1/FSMC_A11/EVENTOUT (io), 87 PG2/FSMC_A12/EVENTOUT (io), 88 PG3/FSMC_A13/EVENTOUT (io), 89 PG4/FSMC_A14/EVENTOUT (io), 90 PG5/FSMC_A15/EVENTOUT (io), 91 PG6/FSMC_INT2/EVENTOUT (io), 92 PG7/FSMC_INT3/USART6_CK/EVENTOUT (io), 93 PG8/USART6_RTS/ETH_PPS_OUT/EVENTOUT (io), 124 PG9/USART6_RX/FSMC_NE2/FSMC_NCE3/EVENTOUT (io), 125 PG10/FSMC_NCE4_1/FSMC_NE3/EVENTOUT (io), 126 PG11/FSMC_NCE4_2/ETH_MII_TX_EN/ETH_RMII_TX_EN/EVENTOUT (io), 127 PG12/FSMC_NE4/USART6_RTS/EVENTOUT (io), 128 PG13/FSMC_A24/USART6_CTS/ETH_MII_TXD0/ETH_RMII_TXD0/EVENTOUT (io), 129 PG14/FSMC_A25/USART6_TX/ETH_MII_TXD1/ETH_RMII_TXD1/EVENTOUT (io), 132 PG15/USART6_CTS/DCMI_D13/EVENTOUT (io)
part E pins: 25 NRST (io), 71 VCAP_1 (power), 106 VCAP_2 (power), 138 BOOT0/VPP (in), 143 PDR_ON (in)
part F pins: 6 VBAT (power), 16 VSS (power), 17 VDD (power), 30 VDD (power), 31 VSSA (power), 32 VREF+ (power), 33 VDDA (power), 38 VSS (power), 39 VDD (power), 51 VSS (power), 52 VDD (power), 61 VSS (power), 62 VDD (power), 72 VDD (power), 83 VSS (power), 84 VDD (power), 94 VSS (power), 95 VDD (power), 107 VSS (power), 108 VDD (power), 120 VSS (power), 121 VDD (power), 130 VSS (power), 131 VDD (power), 144 VDD (power)

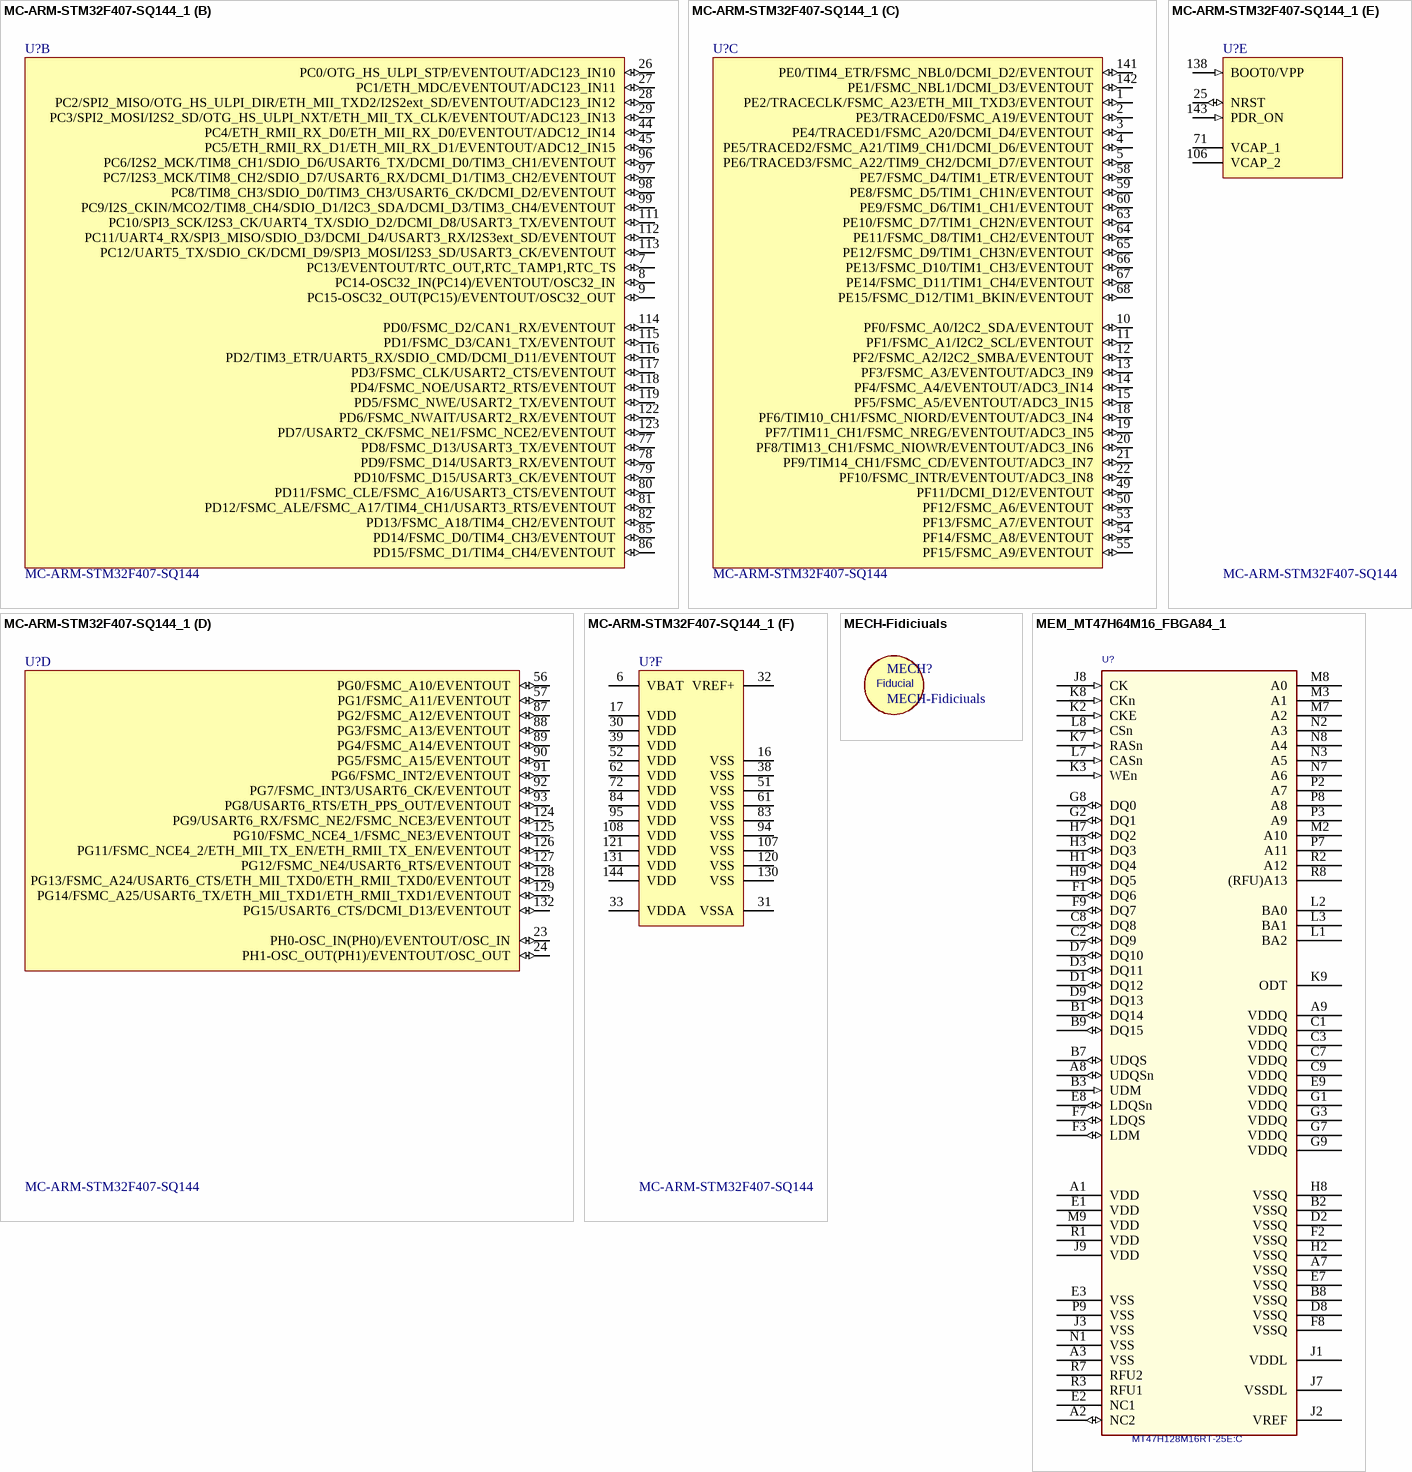
[diagram p15: symbols MC-ARM-STM32F407-SQ144_1 to MEM_MT47H64M16_FBGA84_1]

## MC-ARM-STM32F407-SQ144_1
designator U?, comment MC-ARM-STM32F407-SQ144
Supplier 1: Digi-Key; Supplier Part Number 1: 497-11766-ND
footprint STM-LQFP144_L
part A pins: 34 PA0-WKUP(PA0)/USART2_CTS/UART4_TX/ETH_MII_CRS/TIM2_CH1_ETR/TIM5_CH1/TIM8_ETR/EVENTOUT/ADC123_IN0/WKUP (io), 35 PA1/USART2_RTS/UART4_RX/ETH_RMII_REF_CLK/ETH_MII_RX_CLK/TIM5_CH2/TIM2_CH2/EVENTOUT/ADC123_IN1 (io), 36 PA2/USART2_TX/TIM5_CH3/TIM9_CH1/TIM2_CH3/ETH_MDIO/EVENTOUT/ADC123_IN2 (io), 37 PA3/USART2_RX/TIM5_CH4/TIM9_CH2/TIM2_CH4/OTG_HS_ULPI_D0/ETH_MII_COL/EVENTOUT/ADC123_IN3 (io), 40 PA4/SPI1_NSS/SPI3_NSS/USART2_CK/DCMI_HSYNC/OTG_HS_SOF/I2S3_WS/EVENTOUT/ADC12_IN4/DAC_OUT1 (io), 41 PA5/SPI1_SCK/OTG_HS_ULPI_CK/TIM2_CH1_ETR/TIM8_CH1N/EVENTOUT/ADC12_IN5/DAC_OUT2 (io), 42 PA6/SPI1_MISO/TIM8_BKIN/TIM13_CH1/DCMI_PIXCLK/TIM3_CH1/TIM1_BKIN/EVENTOUT/ADC12_IN6 (io), 43 PA7/SPI1_MOSI/TIM8_CH1N/TIM14_CH1/TIM3_CH2/ETH_MII_RX_DV/TIM1_CH1N/ETH_RMII_CRS_DV/EVENTOUT/ADC12_IN7 (io), 46 PB0/TIM3_CH3/TIM8_CH2N/OTG_HS_ULPI_D1/ETH_MII_RXD2/TIM1_CH2N/EVENTOUT/ADC12_IN8 (io), 47 PB1/TIM3_CH4/TIM8_CH3N/OTG_HS_ULPI_D2/ETH_MII_RXD3/TIM1_CH3N/EVENTOUT/ADC12_IN9 (io), 48 PB2-BOOT1(PB2)/EVENTOUT (io), 69 PB10/SPI2_SCK/I2S2_CK/I2C2_SCL/USART3_TX/OTG_HS_ULPI_D3/ETH_MII_RX_ER/TIM2_CH3/EVENTOUT (io), 70 PB11/I2C2_SDA/USART3_RX/OTG_HS_ULPI_D4/ETH_RMII_TX_EN/ETH_MII_TX_EN/TIM2_CH4/EVENTOUT (io), 73 PB12/SPI2_NSS/I2S2_WS/I2C2_SMBA/USART3_CK/TIM1_BKIN/CAN2_RX/OTG_HS_ULPI_D5/ETH_RMII_TXD0/ETH_MII_TXD0/OTG_HS_ID/EVENTOUT (io), 74 PB13/SPI2_SCK/I2S2_CK/USART3_CTS/TIM1_CH1N/CAN2_TX/OTG_HS_ULPI_D6/ETH_RMII_TXD1/ETH_MII_TXD1/EVENTOUT/OTG_HS_VBUS (io), 75 PB14/SPI2_MISO/TIM1_CH2N/TIM12_CH1/OTG_HS_DM/USART3_RTS/TIM8_CH2N/I2S2ext_SD/EVENTOUT (io), 76 PB15/SPI2_MOSI/I2S2_SD/TIM1_CH3N/TIM8_CH3N/TIM12_CH2/OTG_HS_DP/EVENTOUT/RTC_REFIN (io), 100 PA8/MCO1/USART1_CK/TIM1_CH1/I2C3_SCL/OTG_FS_SOF/EVENTOUT (io), 101 PA9/USART1_TX/TIM1_CH2/I2C3_SMBA/DCMI_D0/EVENTOUT/OTG_FS_VBUS (io), 102 PA10/USART1_RX/TIM1_CH3/OTG_FS_ID/DCMI_D1/EVENTOUT (io), 103 PA11/USART1_CTS/CAN1_RX/TIM1_CH4/OTG_FS_DM/EVENTOUT (io), 104 PA12/USART1_RTS/CAN1_TX/TIM1_ETR/OTG_FS_DP/EVENTOUT (io), 105 PA13(JTMS-SWDIO)/JTMS-SWDIO/EVENTOUT (io), 109 PA14(JTCK-SWCLK)/JTCK-SWCLK/EVENTOUT (io), 110 PA15(JTDI)/JTDI/SPI3_NSS/I2S3_WS/TIM2_CH1_ETR/SPI1_NSS/EVENTOUT (io), 133 PB3(JTDO/TRACESWO)/JTDO/TRACESWO/SPI3_SCK/I2S3_CK/TIM2_CH2/SPI1_SCK/EVENTOUT (io), 134 PB4(NJTRST)/NJTRST/SPI3_MISO/TIM3_CH1/SPI1_MISO/I2S3ext_SD/EVENTOUT (io), 135 PB5/I2C1_SMBA/CAN2_RX/OTG_HS_ULPI_D7/ETH_PPS_OUT/TIM3_CH2/SPI1_MOSI/SPI3_MOSI/DCMI_D10/I2S3_SD/EVENTOUT (io), 136 PB6/I2C1_SCL/TIM4_CH1/CAN2_TX/DCMI_D5/USART1_TX/EVENTOUT (io), 137 PB7/I2C1_SDA/FSMC_NL/DCMI_VSYNC/USART1_RX/TIM4_CH2/EVENTOUT (io), 139 PB8/TIM4_CH3/SDIO_D4/TIM10_CH1/DCMI_D6/ETH_MII_TXD3/I2C1_SCL/CAN1_RX/EVENTOUT (io), 140 PB9/SPI2_NSS/I2S2_WS/TIM4_CH4/TIM11_CH1/SDIO_D5/DCMI_D7/I2C1_SDA/CAN1_TX/EVENTOUT (io)
part B pins: 7 PC13/EVENTOUT/RTC_OUT,RTC_TAMP1,RTC_TS (io), 8 PC14-OSC32_IN(PC14)/EVENTOUT/OSC32_IN (io), 9 PC15-OSC32_OUT(PC15)/EVENTOUT/OSC32_OUT (io), 26 PC0/OTG_HS_ULPI_STP/EVENTOUT/ADC123_IN10 (io), 27 PC1/ETH_MDC/EVENTOUT/ADC123_IN11 (io), 28 PC2/SPI2_MISO/OTG_HS_ULPI_DIR/ETH_MII_TXD2/I2S2ext_SD/EVENTOUT/ADC123_IN12 (io), 29 PC3/SPI2_MOSI/I2S2_SD/OTG_HS_ULPI_NXT/ETH_MII_TX_CLK/EVENTOUT/ADC123_IN13 (io), 44 PC4/ETH_RMII_RX_D0/ETH_MII_RX_D0/EVENTOUT/ADC12_IN14 (io), 45 PC5/ETH_RMII_RX_D1/ETH_MII_RX_D1/EVENTOUT/ADC12_IN15 (io), 77 PD8/FSMC_D13/USART3_TX/EVENTOUT (io), 78 PD9/FSMC_D14/USART3_RX/EVENTOUT (io), 79 PD10/FSMC_D15/USART3_CK/EVENTOUT (io), 80 PD11/FSMC_CLE/FSMC_A16/USART3_CTS/EVENTOUT (io), 81 PD12/FSMC_ALE/FSMC_A17/TIM4_CH1/USART3_RTS/EVENTOUT (io), 82 PD13/FSMC_A18/TIM4_CH2/EVENTOUT (io), 85 PD14/FSMC_D0/TIM4_CH3/EVENTOUT (io), 86 PD15/FSMC_D1/TIM4_CH4/EVENTOUT (io), 96 PC6/I2S2_MCK/TIM8_CH1/SDIO_D6/USART6_TX/DCMI_D0/TIM3_CH1/EVENTOUT (io), 97 PC7/I2S3_MCK/TIM8_CH2/SDIO_D7/USART6_RX/DCMI_D1/TIM3_CH2/EVENTOUT (io), 98 PC8/TIM8_CH3/SDIO_D0/TIM3_CH3/USART6_CK/DCMI_D2/EVENTOUT (io), 99 PC9/I2S_CKIN/MCO2/TIM8_CH4/SDIO_D1/I2C3_SDA/DCMI_D3/TIM3_CH4/EVENTOUT (io), 111 PC10/SPI3_SCK/I2S3_CK/UART4_TX/SDIO_D2/DCMI_D8/USART3_TX/EVENTOUT (io), 112 PC11/UART4_RX/SPI3_MISO/SDIO_D3/DCMI_D4/USART3_RX/I2S3ext_SD/EVENTOUT (io), 113 PC12/UART5_TX/SDIO_CK/DCMI_D9/SPI3_MOSI/I2S3_SD/USART3_CK/EVENTOUT (io), 114 PD0/FSMC_D2/CAN1_RX/EVENTOUT (io), 115 PD1/FSMC_D3/CAN1_TX/EVENTOUT (io), 116 PD2/TIM3_ETR/UART5_RX/SDIO_CMD/DCMI_D11/EVENTOUT (io), 117 PD3/FSMC_CLK/USART2_CTS/EVENTOUT (io), 118 PD4/FSMC_NOE/USART2_RTS/EVENTOUT (io), 119 PD5/FSMC_NWE/USART2_TX/EVENTOUT (io), 122 PD6/FSMC_NWAIT/USART2_RX/EVENTOUT (io), 123 PD7/USART2_CK/FSMC_NE1/FSMC_NCE2/EVENTOUT (io)
part C pins: 1 PE2/TRACECLK/FSMC_A23/ETH_MII_TXD3/EVENTOUT (io), 2 PE3/TRACED0/FSMC_A19/EVENTOUT (io), 3 PE4/TRACED1/FSMC_A20/DCMI_D4/EVENTOUT (io), 4 PE5/TRACED2/FSMC_A21/TIM9_CH1/DCMI_D6/EVENTOUT (io), 5 PE6/TRACED3/FSMC_A22/TIM9_CH2/DCMI_D7/EVENTOUT (io), 10 PF0/FSMC_A0/I2C2_SDA/EVENTOUT (io), 11 PF1/FSMC_A1/I2C2_SCL/EVENTOUT (io), 12 PF2/FSMC_A2/I2C2_SMBA/EVENTOUT (io), 13 PF3/FSMC_A3/EVENTOUT/ADC3_IN9 (io), 14 PF4/FSMC_A4/EVENTOUT/ADC3_IN14 (io), 15 PF5/FSMC_A5/EVENTOUT/ADC3_IN15 (io), 18 PF6/TIM10_CH1/FSMC_NIORD/EVENTOUT/ADC3_IN4 (io), 19 PF7/TIM11_CH1/FSMC_NREG/EVENTOUT/ADC3_IN5 (io), 20 PF8/TIM13_CH1/FSMC_NIOWR/EVENTOUT/ADC3_IN6 (io), 21 PF9/TIM14_CH1/FSMC_CD/EVENTOUT/ADC3_IN7 (io), 22 PF10/FSMC_INTR/EVENTOUT/ADC3_IN8 (io), 49 PF11/DCMI_D12/EVENTOUT (io), 50 PF12/FSMC_A6/EVENTOUT (io), 53 PF13/FSMC_A7/EVENTOUT (io), 54 PF14/FSMC_A8/EVENTOUT (io), 55 PF15/FSMC_A9/EVENTOUT (io), 58 PE7/FSMC_D4/TIM1_ETR/EVENTOUT (io), 59 PE8/FSMC_D5/TIM1_CH1N/EVENTOUT (io), 60 PE9/FSMC_D6/TIM1_CH1/EVENTOUT (io), 63 PE10/FSMC_D7/TIM1_CH2N/EVENTOUT (io), 64 PE11/FSMC_D8/TIM1_CH2/EVENTOUT (io), 65 PE12/FSMC_D9/TIM1_CH3N/EVENTOUT (io), 66 PE13/FSMC_D10/TIM1_CH3/EVENTOUT (io), 67 PE14/FSMC_D11/TIM1_CH4/EVENTOUT (io), 68 PE15/FSMC_D12/TIM1_BKIN/EVENTOUT (io), 141 PE0/TIM4_ETR/FSMC_NBL0/DCMI_D2/EVENTOUT (io), 142 PE1/FSMC_NBL1/DCMI_D3/EVENTOUT (io)
part D pins: 23 PH0-OSC_IN(PH0)/EVENTOUT/OSC_IN (io), 24 PH1-OSC_OUT(PH1)/EVENTOUT/OSC_OUT (io), 56 PG0/FSMC_A10/EVENTOUT (io), 57 PG1/FSMC_A11/EVENTOUT (io), 87 PG2/FSMC_A12/EVENTOUT (io), 88 PG3/FSMC_A13/EVENTOUT (io), 89 PG4/FSMC_A14/EVENTOUT (io), 90 PG5/FSMC_A15/EVENTOUT (io), 91 PG6/FSMC_INT2/EVENTOUT (io), 92 PG7/FSMC_INT3/USART6_CK/EVENTOUT (io), 93 PG8/USART6_RTS/ETH_PPS_OUT/EVENTOUT (io), 124 PG9/USART6_RX/FSMC_NE2/FSMC_NCE3/EVENTOUT (io), 125 PG10/FSMC_NCE4_1/FSMC_NE3/EVENTOUT (io), 126 PG11/FSMC_NCE4_2/ETH_MII_TX_EN/ETH_RMII_TX_EN/EVENTOUT (io), 127 PG12/FSMC_NE4/USART6_RTS/EVENTOUT (io), 128 PG13/FSMC_A24/USART6_CTS/ETH_MII_TXD0/ETH_RMII_TXD0/EVENTOUT (io), 129 PG14/FSMC_A25/USART6_TX/ETH_MII_TXD1/ETH_RMII_TXD1/EVENTOUT (io), 132 PG15/USART6_CTS/DCMI_D13/EVENTOUT (io)
part E pins: 25 NRST (io), 71 VCAP_1 (power), 106 VCAP_2 (power), 138 BOOT0/VPP (in), 143 PDR_ON (in)
part F pins: 6 VBAT (power), 16 VSS (power), 17 VDD (power), 30 VDD (power), 31 VSSA (power), 32 VREF+ (power), 33 VDDA (power), 38 VSS (power), 39 VDD (power), 51 VSS (power), 52 VDD (power), 61 VSS (power), 62 VDD (power), 72 VDD (power), 83 VSS (power), 84 VDD (power), 94 VSS (power), 95 VDD (power), 107 VSS (power), 108 VDD (power), 120 VSS (power), 121 VDD (power), 130 VSS (power), 131 VDD (power), 144 VDD (power)

## MECH-Fidiciuals
designator MECH?
Fidiculas
footprint T-Fidicuals (Fidicuals)
text: Fiducial

## MEM_MT47H64M16_FBGA84_1
designator U?, comment MT47H128M16RT-25E:C
DDR2 SDRAM 2Gb (256Mx8); PART_NUMBER: MEM_MT4764M16_FBGA84; TIIntPartnumber: 1A0290; MfrNum: MT47H256M8EB-25E; Mfr: Micron; PartName: MT47H256M8; Cost10K: 8.91; Cost100: 12.00; Vendor: Arrow; Supplier 1: Digi-Key; Supplier Part Number 1: 557-1535-ND
footprint MICT-RT-84 (BGA, 84-Balls, Body 12.5x9mm, Pitch 0.8mm)
pins: A1 VDD (power), A2 NC2 (io), A3 VSS (power), A7 VSSQ (power), A8 UDQSn (io), A9 VDDQ (power), B1 DQ14 (io), B2 VSSQ (power), B3 UDM (in), B7 UDQS (io), B8 VSSQ (power), B9 DQ15 (io), C1 VDDQ (power), C2 DQ9 (io), C3 VDDQ (power), C7 VDDQ (power), C8 DQ8 (io), C9 VDDQ (power), D1 DQ12 (io), D2 VSSQ (power), D3 DQ11 (io), D7 DQ10 (io), D8 VSSQ (power), D9 DQ13 (io), E1 VDD (power), E2 NC1, E3 VSS (power), E7 VSSQ (power), E8 LDQSn (io), E9 VDDQ (power), F1 DQ6 (io), F2 VSSQ (power), F3 LDM (io), F7 LDQS (io), F8 VSSQ (power), F9 DQ7 (io), G1 VDDQ (power), G2 DQ1 (io), G3 VDDQ (power), G7 VDDQ (power), G8 DQ0 (io), G9 VDDQ (power), H1 DQ4 (io), H2 VSSQ (power), H3 DQ3 (io), H7 DQ2 (io), H8 VSSQ (power), H9 DQ5 (io), J1 VDDL (power), J2 VREF (power), J3 VSS (power), J7 VSSDL (power), J8 CK (in), J9 VDD (power), K2 CKE (in), K3 WEn (in), K7 RASn (in), K8 CKn (in), K9 ODT, L1 BA2, L2 BA0, L3 BA1, L7 CASn (in), L8 CSn (in), M2 A10, M3 A1, M7 A2, M8 A0, M9 VDD (power), N1 VSS (power), N2 A3, N3 A5, N7 A6, N8 A4, P2 A7, P3 A9, P7 A11, P8 A8, P9 VSS (power), R1 VDD (power), R2 A12, R3 RFU1, R7 RFU2, R8 (RFU)A13

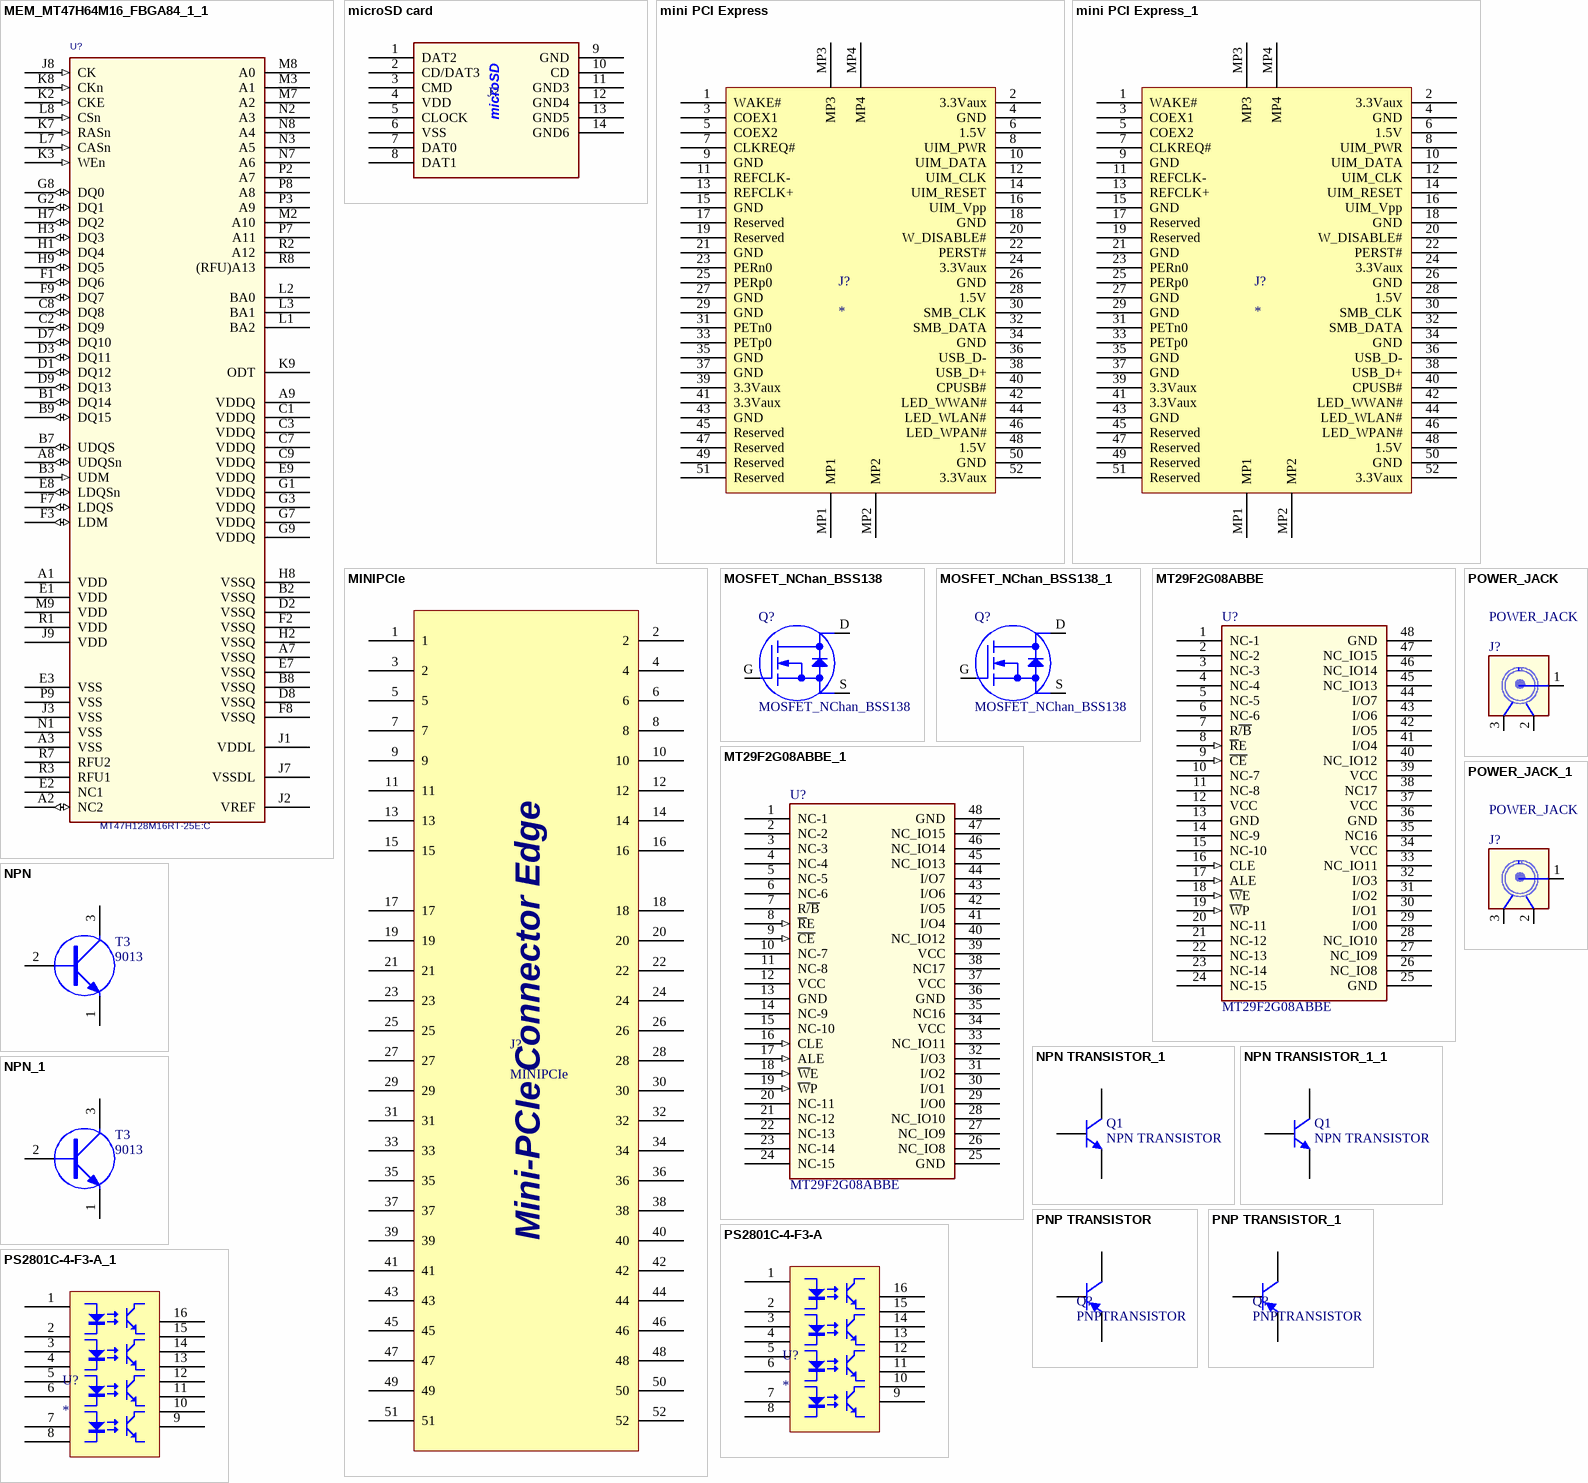
[diagram p16: symbols MEM_MT47H64M16_FBGA84_1_1 to PS2801C-4-F3-A_1]

## MEM_MT47H64M16_FBGA84_1_1
designator U?, comment MT47H128M16RT-25E:C
DDR2 SDRAM 2Gb (256Mx8); PART_NUMBER: MEM_MT4764M16_FBGA84; TIIntPartnumber: 1A0290; MfrNum: MT47H256M8EB-25E; Mfr: Micron; PartName: MT47H256M8; Cost10K: 8.91; Cost100: 12.00; Vendor: Arrow; Supplier 1: Digi-Key; Supplier Part Number 1: 557-1535-ND
footprint MICT-RT-84 (BGA, 84-Balls, Body 12.5x9mm, Pitch 0.8mm)
pins: A1 VDD (power), A2 NC2 (io), A3 VSS (power), A7 VSSQ (power), A8 UDQSn (io), A9 VDDQ (power), B1 DQ14 (io), B2 VSSQ (power), B3 UDM (in), B7 UDQS (io), B8 VSSQ (power), B9 DQ15 (io), C1 VDDQ (power), C2 DQ9 (io), C3 VDDQ (power), C7 VDDQ (power), C8 DQ8 (io), C9 VDDQ (power), D1 DQ12 (io), D2 VSSQ (power), D3 DQ11 (io), D7 DQ10 (io), D8 VSSQ (power), D9 DQ13 (io), E1 VDD (power), E2 NC1, E3 VSS (power), E7 VSSQ (power), E8 LDQSn (io), E9 VDDQ (power), F1 DQ6 (io), F2 VSSQ (power), F3 LDM (io), F7 LDQS (io), F8 VSSQ (power), F9 DQ7 (io), G1 VDDQ (power), G2 DQ1 (io), G3 VDDQ (power), G7 VDDQ (power), G8 DQ0 (io), G9 VDDQ (power), H1 DQ4 (io), H2 VSSQ (power), H3 DQ3 (io), H7 DQ2 (io), H8 VSSQ (power), H9 DQ5 (io), J1 VDDL (power), J2 VREF (power), J3 VSS (power), J7 VSSDL (power), J8 CK (in), J9 VDD (power), K2 CKE (in), K3 WEn (in), K7 RASn (in), K8 CKn (in), K9 ODT, L1 BA2, L2 BA0, L3 BA1, L7 CASn (in), L8 CSn (in), M2 A10, M3 A1, M7 A2, M8 A0, M9 VDD (power), N1 VSS (power), N2 A3, N3 A5, N7 A6, N8 A4, P2 A7, P3 A9, P7 A11, P8 A8, P9 VSS (power), R1 VDD (power), R2 A12, R3 RFU1, R7 RFU2, R8 (RFU)A13

## microSD card
designator J?, comment CONN MICRO SD CARD PUSH-PUSH R/A  (value not drawn)
MOLEX 5027740891; Manufacturer: Molex, LLC; Card Type: Secure Digital - microSD™; Number of Positions: 10 (8 + 2); Connector Type: Connector and Ejector; Insertion, Removal Method: Push In, Push Out; Supplier 1: Digi-Key; Manufacturer Part Number: 5027740891; RoHS: RoHS Compliant; Category: Connectors, Interconnects; Stock 1: 0; Pricing 1: 1000=1.91922, 2000=1.85304, 3000=1.78686, 5000=1.72068 (USD); Packaging: Tape & Reel (TR); Ejector Side: -; Mounting Type: Surface Mount, Right Angle; Features: Switch; Height Above Board: 0.071" (1.80mm); Mounting Feature: Reverse - Bottom; Contact Finish: Gold; Contact Finish Thickness: 20µin (0.51µm); ComponentLink1URL: http://www.molex.com/pdm_docs/sd/5027740891_sd.pdf; ComponentLink1Description: http://www.molex.com/pdm_docs/sd/5027740891_sd.pdf; Supplier Part Number 1: WM24066TR-ND
footprint microSD (Molex-5027740891)
pins: 1 DAT2, 2 CD/DAT3, 3 CMD, 4 VDD (power), 5 CLOCK, 6 VSS (power), 7 DAT0, 8 DAT1, 9 GND (power), 10 CD, 11 GND3 (power), 12 GND4 (power), 13 GND5 (power), 14 GND6 (power)
text: microSD

## mini PCI Express
designator J?
PCI EXSPRESS; Supplier 1: Digi-Key; Supplier Part Number 1: WM3471CT-ND
footprint GSM (Board-to-Board Connector, SMT, Right Angle, Pitch 0.8mm, 52-Position, Female)
pins: 1 WAKE#, 2 3.3Vaux, 3 COEX1, 4 GND, 5 COEX2, 6 1.5V, 7 CLKREQ#, 8 UIM_PWR, 9 GND, 10 UIM_DATA, 11 REFCLK-, 12 UIM_CLK, 13 REFCLK+, 14 UIM_RESET, 15 GND, 16 UIM_Vpp, 17 Reserved, 18 GND, 19 Reserved, 20 W_DISABLE#, 21 GND, 22 PERST#, 23 PERn0, 24 3.3Vaux, 25 PERp0, 26 GND, 27 GND, 28 1.5V, 29 GND, 30 SMB_CLK, 31 PETn0, 32 SMB_DATA, 33 PETp0, 34 GND, 35 GND, 36 USB_D-, 37 GND, 38 USB_D+, 39 3.3Vaux, 40 CPUSB#, 41 3.3Vaux, 42 LED_WWAN#, 43 GND, 44 LED_WLAN#, 45 Reserved, 46 LED_WPAN#, 47 Reserved, 48 1.5V, 49 Reserved, 50 GND, 51 Reserved, 52 3.3Vaux, MP1, MP2, MP3, MP4

## mini PCI Express_1
designator J?
PCI EXSPRESS; Supplier 1: Digi-Key; Supplier Part Number 1: WM3471CT-ND
footprint PCI MODUL
pins: 1 WAKE#, 2 3.3Vaux, 3 COEX1, 4 GND, 5 COEX2, 6 1.5V, 7 CLKREQ#, 8 UIM_PWR, 9 GND, 10 UIM_DATA, 11 REFCLK-, 12 UIM_CLK, 13 REFCLK+, 14 UIM_RESET, 15 GND, 16 UIM_Vpp, 17 Reserved, 18 GND, 19 Reserved, 20 W_DISABLE#, 21 GND, 22 PERST#, 23 PERn0, 24 3.3Vaux, 25 PERp0, 26 GND, 27 GND, 28 1.5V, 29 GND, 30 SMB_CLK, 31 PETn0, 32 SMB_DATA, 33 PETp0, 34 GND, 35 GND, 36 USB_D-, 37 GND, 38 USB_D+, 39 3.3Vaux, 40 CPUSB#, 41 3.3Vaux, 42 LED_WWAN#, 43 GND, 44 LED_WLAN#, 45 Reserved, 46 LED_WPAN#, 47 Reserved, 48 1.5V, 49 Reserved, 50 GND, 51 Reserved, 52 3.3Vaux, MP1, MP2, MP3, MP4

## MINIPCIe
designator J?
footprint PCI MODUL
pins: 1, 2, 3 2, 4, 5, 6, 7, 8, 9, 10, 11, 12, 13, 14, 15, 16, 17, 18, 19, 20, 21, 22, 23, 24, 25, 26, 27, 28, 29, 30, 31, 32, 33, 34, 35, 36, 37, 38, 39, 40, 41, 42, 43, 44, 45, 46, 47, 48, 49, 50, 51, 52
text: Mini-PCIe Connector Edge

## MOSFET_NChan_BSS138
designator Q?
MOSFET Nchan 50V 200mA; TIIntPartnumber: 1Q0019; MfrNum: BSS138-7-F; Mfr: Diodes Inc.; Cost10K: 0.128; Cost100: 0.18; Vendor: Digikey; TN: 289-0091-000; Descriptive_Text: MOSFET Nchan 50V 200mA; PartName: MOSFET_NChan_BSS138; DescriptiveText: MOSFET Nchan 50V 200mA; Supplier 1: Farnell; Supplier Part Number 1: 1843693RL
footprint SOT23-3
pins: D DRAIN, G GATE, S SOURCE

## MOSFET_NChan_BSS138_1
designator Q?, comment MOSFET_NChan_BSS138
MOSFET Nchan 50V 200mA; TIIntPartnumber: 1Q0019; MfrNum: BSS138-7-F; Mfr: Diodes Inc.; Cost10K: 0.128; Cost100: 0.18; Vendor: Digikey; TN: 289-0091-000; Descriptive_Text: MOSFET Nchan 50V 200mA; PartName: MOSFET_NChan_BSS138; DescriptiveText: MOSFET Nchan 50V 200mA; Supplier 1: Farnell; Supplier Part Number 1: 1843693RL
footprint SOT23-3
pins: D DRAIN, G GATE, S SOURCE

## MT29F2G08ABBE
designator U?
NAND 2Gb Flash Memory x08 width 3.3V; TIIntPartnumber: 1A0255; MfrNum: MT29F2G08ABAEAWP; Mfr: Micron; Cost10K: 3.12; Cost100: 7.1; Vendor: Arrow; DescriptiveText: NAND 2Gb Flash Memory x08 width 3.3V; PartName: MT29F2G08AB; Descriptive_Text: NAND 2Gb Flash Memory x08 width 3.3V; Supplier 1: Digi-Key; Supplier Part Number 1: 557-1487-1-ND
footprint skt-tsop48sm (SKT-TSOP48SM)
pins: 1 NC-1, 2 NC-2, 3 NC-3, 4 NC-4, 5 NC-5, 6 NC-6, 7 R~{/B} (oc), 8 ~{R}E (in), 9 ~{CE} (in), 10 NC-7, 11 NC-8, 12 VCC (power), 13 GND (power), 14 NC-9, 15 NC-10, 16 CLE (in), 17 ALE (in), 18 ~{W}E (in), 19 ~{W}P (in), 20 NC-11, 21 NC-12, 22 NC-13, 23 NC-14, 24 NC-15, 25 GND (power), 26 NC_IO8, 27 NC_IO9, 28 NC_IO10, 29 I/O0 (hiz), 30 I/O1 (hiz), 31 I/O2 (hiz), 32 I/O3 (hiz), 33 NC_IO11, 34 VCC (power), 35 NC16, 36 GND (power), 37 VCC (power), 38 NC17, 39 VCC (power), 40 NC_IO12, 41 I/O4 (hiz), 42 I/O5 (hiz), 43 I/O6 (hiz), 44 I/O7 (hiz), 45 NC_IO13, 46 NC_IO14, 47 NC_IO15, 48 GND (power)

## MT29F2G08ABBE_1
designator U?, comment MT29F2G08ABBE
NAND 2Gb Flash Memory x08 width 3.3V; TIIntPartnumber: 1A0255; MfrNum: MT29F2G08ABAEAWP; Mfr: Micron; Cost10K: 3.12; Cost100: 7.1; Vendor: Arrow; DescriptiveText: NAND 2Gb Flash Memory x08 width 3.3V; PartName: MT29F2G08AB; Descriptive_Text: NAND 2Gb Flash Memory x08 width 3.3V; Supplier 1: Digi-Key; Supplier Part Number 1: 557-1487-1-ND
footprint skt-tsop48sm (SKT-TSOP48SM)
pins: 1 NC-1, 2 NC-2, 3 NC-3, 4 NC-4, 5 NC-5, 6 NC-6, 7 R~{/B} (oc), 8 ~{R}E (in), 9 ~{CE} (in), 10 NC-7, 11 NC-8, 12 VCC (power), 13 GND (power), 14 NC-9, 15 NC-10, 16 CLE (in), 17 ALE (in), 18 ~{W}E (in), 19 ~{W}P (in), 20 NC-11, 21 NC-12, 22 NC-13, 23 NC-14, 24 NC-15, 25 GND (power), 26 NC_IO8, 27 NC_IO9, 28 NC_IO10, 29 I/O0 (hiz), 30 I/O1 (hiz), 31 I/O2 (hiz), 32 I/O3 (hiz), 33 NC_IO11, 34 VCC (power), 35 NC16, 36 GND (power), 37 VCC (power), 38 NC17, 39 VCC (power), 40 NC_IO12, 41 I/O4 (hiz), 42 I/O5 (hiz), 43 I/O6 (hiz), 44 I/O7 (hiz), 45 NC_IO13, 46 NC_IO14, 47 NC_IO15, 48 GND (power)

## NPN
designator T3, comment 9013
footprint SOT-23 - TR (SOT-23; 3 Leads; Body 3.0 x 2.6 mm, inc. leads (LxW max))
pins: 1 E, 2 B, 3 C

## NPN TRANSISTOR_1
designator Q1, comment NPN TRANSISTOR
NPN General Purpose Amplifier; Manufacturer: Fairchild Semiconductor; Manufacturer Part Number: BC817-40LT1G; Revision 1: 11-July-2000: SIM Model Added.; Revision 2: July-2002: Re-released for DXP Platform.; Package Information: Latest Revision: Sep-1998; Class I: Discrete; Class II: BJT - Low Power; Collector- Base Voltage VCBO: 50 V; Collector- Emitter Voltage VCEO Max: 45 V; Configuration: Single; Emitter- Base Voltage VEBO: 5 V; Brand: ON Semiconductor; Collector-Emitter Saturation Voltage: 0.7 V; DC Collector/Base Gain hFE Min: 250; Gain Bandwidth Product fT: 100 MHz; Maximum DC Collector Current: 0.5 A; Maximum Power Dissipation: 225 mW; Published: 8-Jun-2000; Datasheet: Latest Revision: 1997; Package Reference: SOT-23A; Publisher: Altium Limited; Supplier 1: Mouser; RoHS: RoHS Compliant; Category: Bipolar Transistors - BJT; Stock 1: 46774; Pricing 1: 1=0.133, 10=0.114, 100=0.040, 1000=0.028, 3000=0.021, 9000=0.017, 24000=0.015, 45000=0.014, 99000=0.011 (USD); Package/Case: SOT-23-3; Packaging: Reel; Series: BC817-40L; Mounting Style: SMD/SMT; Transistor Polarity: NPN; Maximum Operating Temperature: + 150 C; Minimum Operating Temperature: - 55 C; Product Category: Transistors Bipolar- General Purpose; Standard Pack Qty: 3000; RoHS - Mouser: Y; Minimum Order Quantity: 1; Reeling: True; ComponentLink1URL: http://www.mouser.com/ds/2/308/BC817-16LT1-D-104560.pdf; ComponentLink1Description: http://www.mouser.com/ds/2/308/BC817-16LT1-D-104560.pdf; Supplier Part Number 1: 863-BC817-40LT1G
footprint SO-G3/Y1
pins: 1 B, 2 E, 3 C

## NPN TRANSISTOR_1_1
designator Q1, comment NPN TRANSISTOR
NPN General Purpose Amplifier; Manufacturer: Fairchild Semiconductor; Manufacturer Part Number: BC817-40LT1G; Revision 1: 11-July-2000: SIM Model Added.; Revision 2: July-2002: Re-released for DXP Platform.; Package Information: Latest Revision: Sep-1998; Class I: Discrete; Class II: BJT - Low Power; Collector- Base Voltage VCBO: 50 V; Collector- Emitter Voltage VCEO Max: 45 V; Configuration: Single; Emitter- Base Voltage VEBO: 5 V; Brand: ON Semiconductor; Collector-Emitter Saturation Voltage: 0.7 V; DC Collector/Base Gain hFE Min: 250; Gain Bandwidth Product fT: 100 MHz; Maximum DC Collector Current: 0.5 A; Maximum Power Dissipation: 225 mW; Published: 8-Jun-2000; Datasheet: Latest Revision: 1997; Package Reference: SOT-23A; Publisher: Altium Limited; Supplier 1: Mouser; RoHS: RoHS Compliant; Category: Bipolar Transistors - BJT; Stock 1: 46774; Pricing 1: 1=0.133, 10=0.114, 100=0.040, 1000=0.028, 3000=0.021, 9000=0.017, 24000=0.015, 45000=0.014, 99000=0.011 (USD); Package/Case: SOT-23-3; Packaging: Reel; Series: BC817-40L; Mounting Style: SMD/SMT; Transistor Polarity: NPN; Maximum Operating Temperature: + 150 C; Minimum Operating Temperature: - 55 C; Product Category: Transistors Bipolar- General Purpose; Standard Pack Qty: 3000; RoHS - Mouser: Y; Minimum Order Quantity: 1; Reeling: True; ComponentLink1URL: http://www.mouser.com/ds/2/308/BC817-16LT1-D-104560.pdf; ComponentLink1Description: http://www.mouser.com/ds/2/308/BC817-16LT1-D-104560.pdf; Supplier Part Number 1: 863-BC817-40LT1G
footprint SO-G3/Y1
pins: 1 B, 2 E, 3 C

## NPN_1
designator T3, comment 9013
footprint SOT-23 - TR (SOT-23; 3 Leads; Body 3.0 x 2.6 mm, inc. leads (LxW max))
pins: 1 E, 2 B, 3 C

## PNP TRANSISTOR
designator Q?, comment PNPTRANSISTOR
PNP General Purpose Amplifier; Manufacturer: Fairchild Semiconductor; Manufacturer Part Number: BC817-40LT1G; Revision 1: 11-July-2000: SIM Model Added.; Revision 2: July-2002: Re-released for DXP Platform.; Package Information: Latest Revision: Sep-1998; Class I: Discrete; Class II: BJT - Low Power; Collector- Base Voltage VCBO: 50 V; Collector- Emitter Voltage VCEO Max: 45 V; Configuration: Single; Emitter- Base Voltage VEBO: 5 V; Brand: ON Semiconductor; Collector-Emitter Saturation Voltage: 0.7 V; Transistor Polarity: NPN; DC Collector/Base Gain hFE Min: 250; Gain Bandwidth Product fT: 100 MHz; Maximum DC Collector Current: 0.5 A; Maximum Power Dissipation: 225 mW; Published: 8-Jun-2000; Datasheet: Latest Revision: 1997; Package Reference: SOT-23A; Publisher: Altium Limited; RoHS: RoHS Compliant; Category: Bipolar Transistors - BJT; Package/Case: SOT-23-3; Packaging: Reel; Series: BC817-40L; Mounting Style: SMD/SMT; Maximum Operating Temperature: + 150 C; Minimum Operating Temperature: - 55 C; Product Category: Transistors Bipolar- General Purpose; Standard Pack Qty: 3000; RoHS - Mouser: Y; Minimum Order Quantity: 1; Reeling: True; ComponentLink1URL: http://www.mouser.com/ds/2/308/BC817-16LT1-D-104560.pdf; ComponentLink1Description: http://www.mouser.com/ds/2/308/BC817-16LT1-D-104560.pdf; Supplier 1: Mouser; Stock 1: 20798; Pricing 1: 1=0.226, 10=0.149, 100=0.062, 1000=0.042, 3000=0.033, 9000=0.028, 24000=0.027, 45000=0.025, 99000=0.022 (USD); ComponentLink2URL: http://www.mouser.com/ds/2/308/BCX17LT1-D-70726.pdf; ComponentLink2Description: http://www.mouser.com/ds/2/308/BCX17LT1-D-70726.pdf; Supplier Part Number 1: 863-BCX17LT1G
footprint SO-G3/Y1
pins: 1 B, 2 E, 3 C

## PNP TRANSISTOR_1
designator Q?, comment PNPTRANSISTOR
PNP General Purpose Amplifier; Manufacturer: Fairchild Semiconductor; Manufacturer Part Number: BC817-40LT1G; Revision 1: 11-July-2000: SIM Model Added.; Revision 2: July-2002: Re-released for DXP Platform.; Package Information: Latest Revision: Sep-1998; Class I: Discrete; Class II: BJT - Low Power; Collector- Base Voltage VCBO: 50 V; Collector- Emitter Voltage VCEO Max: 45 V; Configuration: Single; Emitter- Base Voltage VEBO: 5 V; Brand: ON Semiconductor; Collector-Emitter Saturation Voltage: 0.7 V; Transistor Polarity: NPN; DC Collector/Base Gain hFE Min: 250; Gain Bandwidth Product fT: 100 MHz; Maximum DC Collector Current: 0.5 A; Maximum Power Dissipation: 225 mW; Published: 8-Jun-2000; Datasheet: Latest Revision: 1997; Package Reference: SOT-23A; Publisher: Altium Limited; RoHS: RoHS Compliant; Category: Bipolar Transistors - BJT; Package/Case: SOT-23-3; Packaging: Reel; Series: BC817-40L; Mounting Style: SMD/SMT; Maximum Operating Temperature: + 150 C; Minimum Operating Temperature: - 55 C; Product Category: Transistors Bipolar- General Purpose; Standard Pack Qty: 3000; RoHS - Mouser: Y; Minimum Order Quantity: 1; Reeling: True; ComponentLink1URL: http://www.mouser.com/ds/2/308/BC817-16LT1-D-104560.pdf; ComponentLink1Description: http://www.mouser.com/ds/2/308/BC817-16LT1-D-104560.pdf; Supplier 1: Mouser; Stock 1: 20798; Pricing 1: 1=0.226, 10=0.149, 100=0.062, 1000=0.042, 3000=0.033, 9000=0.028, 24000=0.027, 45000=0.025, 99000=0.022 (USD); ComponentLink2URL: http://www.mouser.com/ds/2/308/BCX17LT1-D-70726.pdf; ComponentLink2Description: http://www.mouser.com/ds/2/308/BCX17LT1-D-70726.pdf; Supplier Part Number 1: 863-BCX17LT1G
footprint SO-G3/Y1
pins: 1 B, 2 E, 3 C

## POWER_JACK
designator J?
Jack Power Right Angle 2conductor; TIIntPartnumber: 2J0008; MfrNum: RAPC712; Mfr: Switchcraft; PartName: PwrJack_RAPC712; Cost10K: 0.90; Vendor: Digikey; DescriptiveText: Jack Power Right Angle 2conductor; Cost100: 0.90; Descriptive_Text: Jack Power Right Angle 2conductor; Supplier 1: Farnell; Supplier Part Number 1: 1617204
footprint RAPC712
pins: 1, 2, 3

## POWER_JACK_1
designator J?, comment POWER_JACK
Jack Power Right Angle 2conductor; TIIntPartnumber: 2J0008; MfrNum: RAPC712; Mfr: Switchcraft; PartName: PwrJack_RAPC712; Cost10K: 0.90; Vendor: Digikey; DescriptiveText: Jack Power Right Angle 2conductor; Cost100: 0.90; Descriptive_Text: Jack Power Right Angle 2conductor; Supplier 1: Farnell; Supplier Part Number 1: 1617204
footprint RAPC712
pins: 1, 2, 3

## PS2801C-4-F3-A
designator U?
NEC - PS2801C-4-F3-A - OPTOCOUPLER, 4X TR O/P, SSOP-16; Supplier 1: Farnell; Supplier Part Number 1: 1682862
footprint U_16_D LONG (U_16_D)
pins: 1, 2, 3, 4, 5, 6, 7, 8, 9, 10, 11, 12, 13, 14, 15, 16

## PS2801C-4-F3-A_1
designator U?
NEC - PS2801C-4-F3-A - OPTOCOUPLER, 4X TR O/P, SSOP-16; Supplier 1: Farnell; Supplier Part Number 1: 1682862
footprint U_16_D LONG (U_16_D)
pins: 1, 2, 3, 4, 5, 6, 7, 8, 9, 10, 11, 12, 13, 14, 15, 16

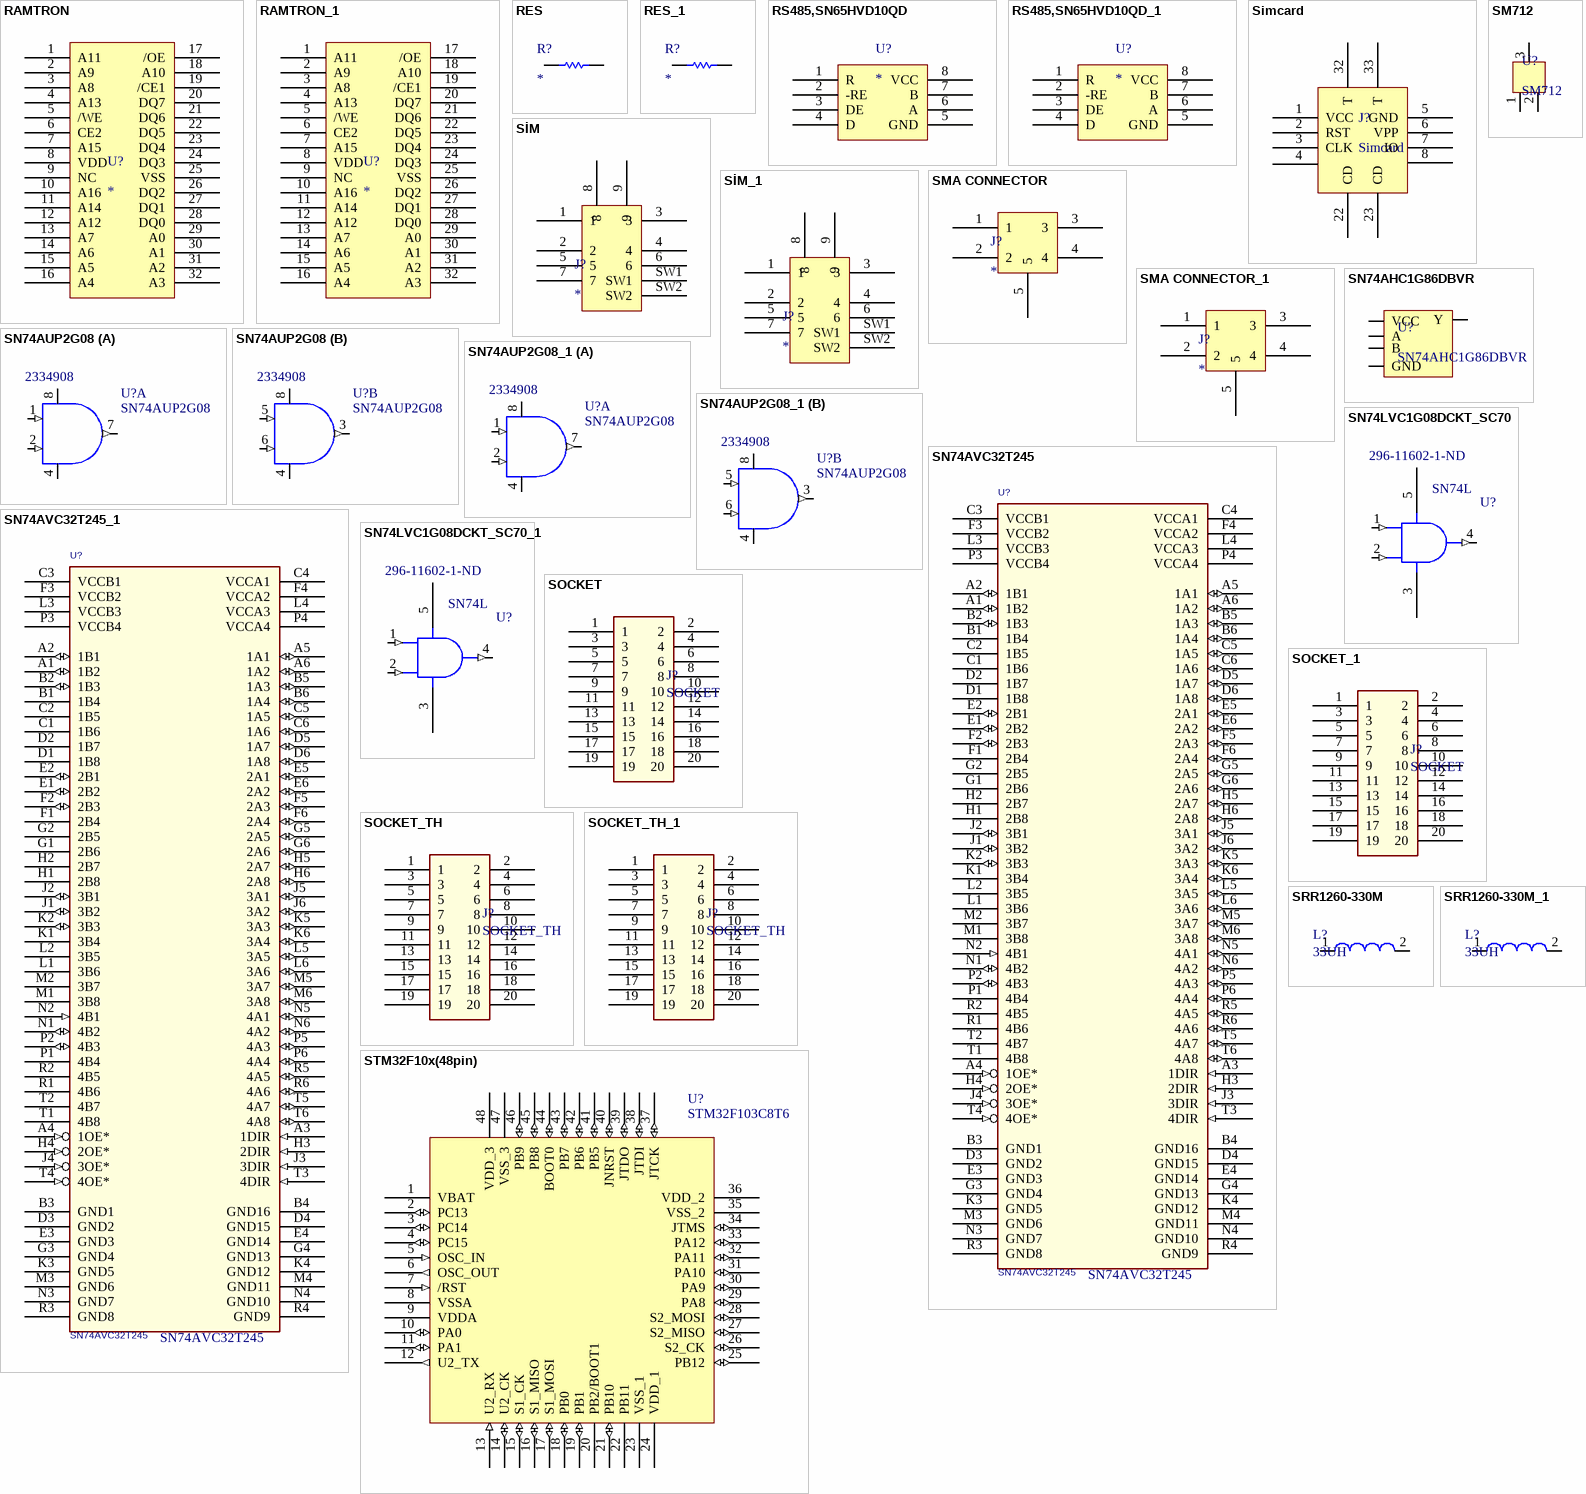
[diagram p17: symbols RAMTRON to STM32F10x(48pin)]

## RAMTRON
designator U?
Supplier 1: Digi-Key; Supplier Part Number 1: FM28V100-TGRA-ND
footprint 32-TSOP (SOP, 32-Leads, Body 11.9x8.1mm, Pitch 0.5mm, IPC Medium Density)
pins: 1 A11, 2 A9, 3 A8, 4 A13, 5 /WE, 6 CE2, 7 A15, 8 VDD, 9 NC, 10 A16, 11 A14, 12 A12, 13 A7, 14 A6, 15 A5, 16 A4, 17 /OE, 18 A10, 19 /CE1, 20 DQ7, 21 DQ6, 22 DQ5, 23 DQ4, 24 DQ3, 25 VSS, 26 DQ2, 27 DQ1, 28 DQ0, 29 A0, 30 A1, 31 A2, 32 A3

## RAMTRON_1
designator U?
Supplier 1: Digi-Key; Supplier Part Number 1: FM28V100-TGRA-ND
footprint 32-TSOP (SOP, 32-Leads, Body 11.9x8.1mm, Pitch 0.5mm, IPC Medium Density)
pins: 1 A11, 2 A9, 3 A8, 4 A13, 5 /WE, 6 CE2, 7 A15, 8 VDD, 9 NC, 10 A16, 11 A14, 12 A12, 13 A7, 14 A6, 15 A5, 16 A4, 17 /OE, 18 A10, 19 /CE1, 20 DQ7, 21 DQ6, 22 DQ5, 23 DQ4, 24 DQ3, 25 VSS, 26 DQ2, 27 DQ1, 28 DQ0, 29 A0, 30 A1, 31 A2, 32 A3

## RES
designator R?
VISHAY DRALORIC - CRCW08051K30FKEA - RESISTOR, 0805, 1K3, 1%, FULL REEL; Product Range: VISHAY - CRCW Series; Resistance: 1.3; Power Rating: 125; Resistor Case Style: 0805 [2012 Metric]; Resistor Element Material: Thick Film; Temperature Coefficient: ± 100; Voltage Rating: 150; SVHC: No SVHC (16-Dec-2013); Reel Quantity: 5000; Resistor Mounting: SMD<!--FANDB--><div class="features-and-benefits-container"></div>; Supplier 1: Farnell; Manufacturer: VISHAY DRALORIC; Manufacturer Part Number: CRCW08051K30FKEA; RoHS: Y-EX; Stock 1: 35000; Pricing 1: 5000=0,003, 25000=0,003, 50000=0,003 (EUR); Resistance Tolerance: ± 1%; Packaging: Tape & Reel; MSL: MSL 1 - Unlimited; ComponentLink1URL: http://www.farnell.com/datasheets/1697337.pdf; ComponentLink1Description: http://www.farnell.com/datasheets/1697337.pdf; Supplier Part Number 1: 2123141
footprint 0402
pins: 1, 2